# Altium schematic symbol library IC.SchLib: 125 symbols (part 1 of 2)
Pins are listed as number, name and electrical type; pins without a type are passive.

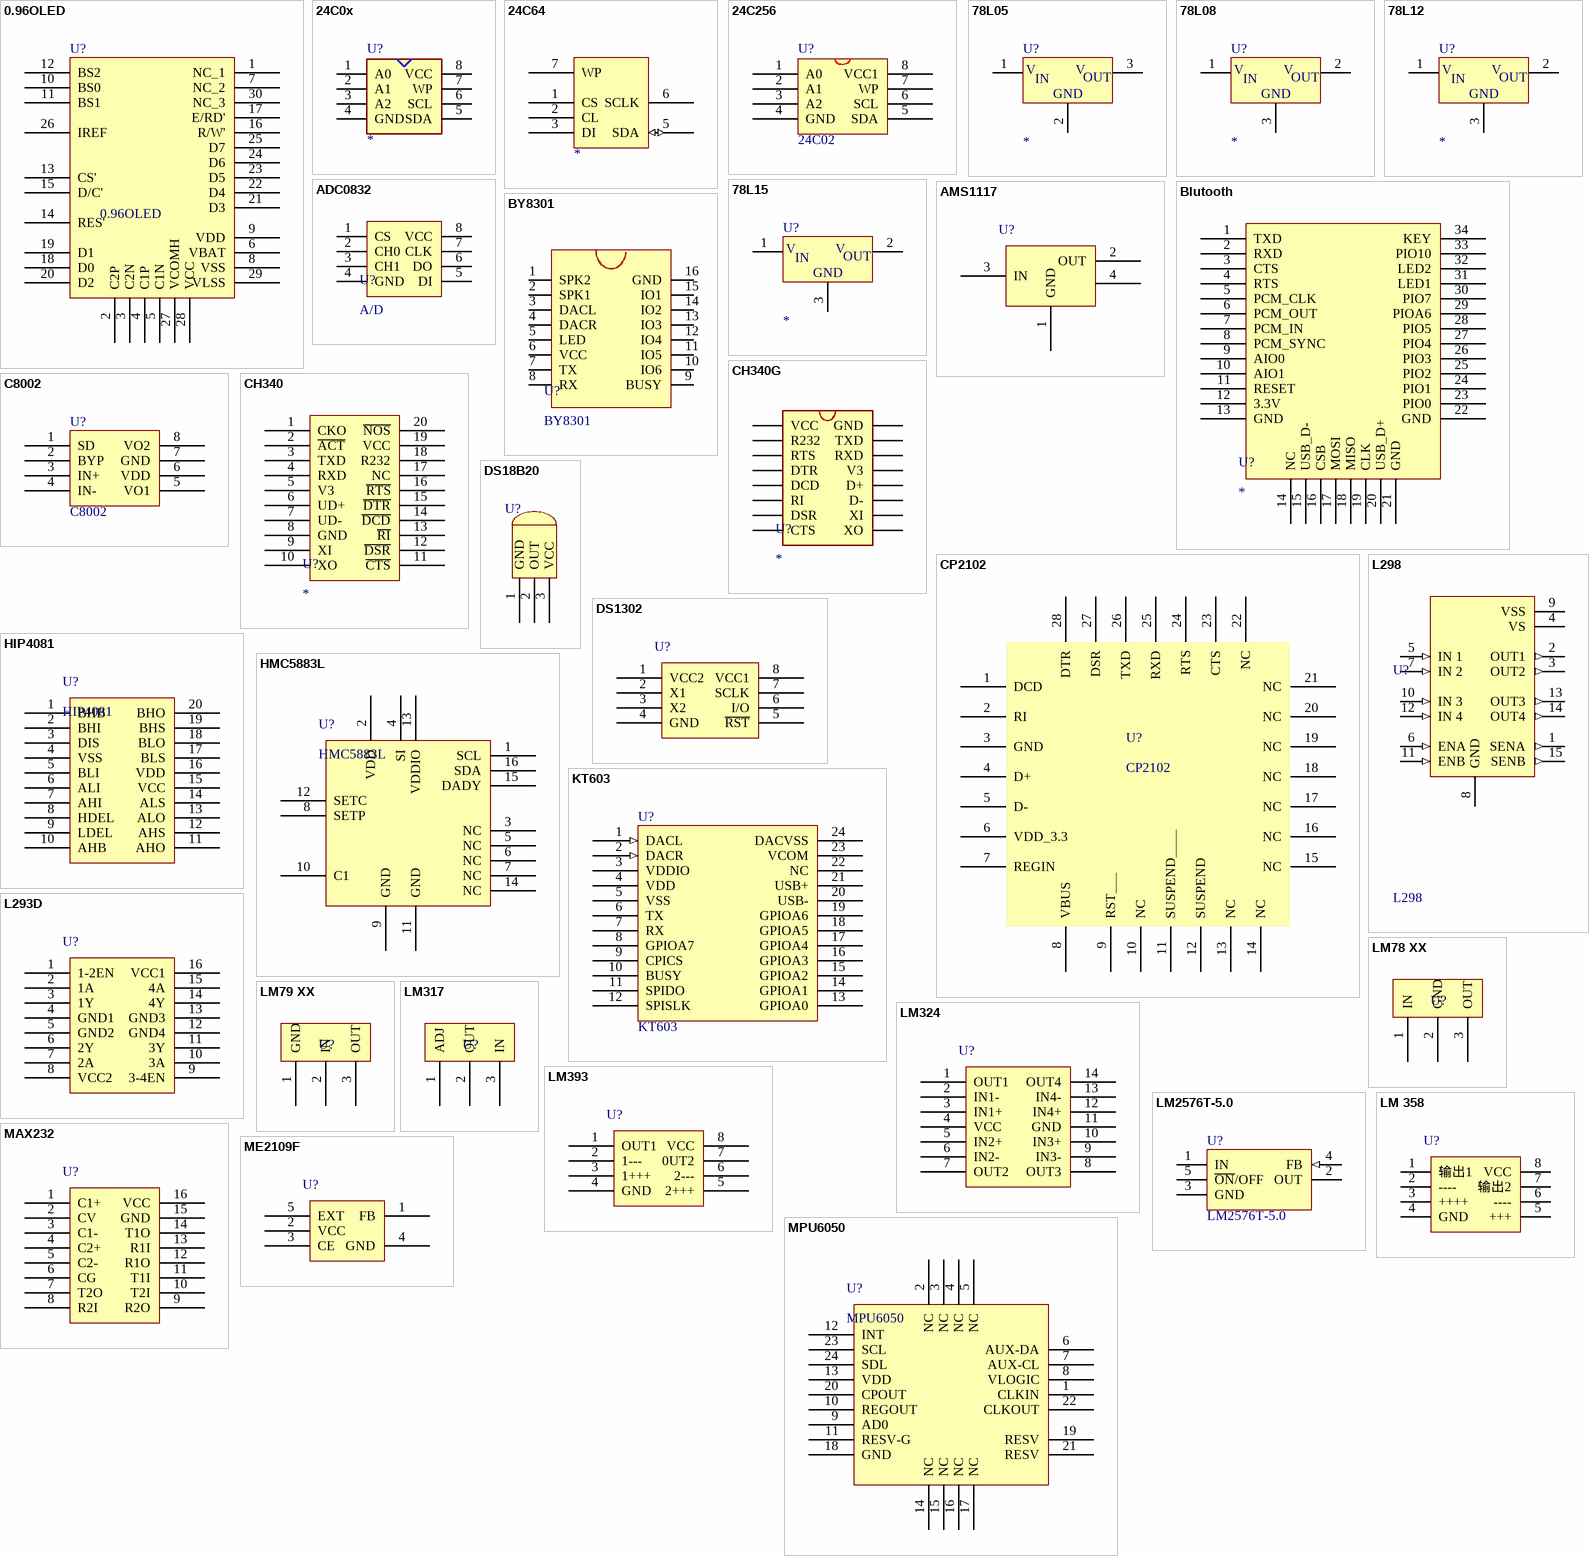
[diagram p0: symbols 0.96OLED to MPU6050]

## 0.96OLED
designator U?
footprint 0.96OLED
pins: 1 NC_1, 2 C2P, 3 C2N, 4 C1P, 5 C1N, 6 VBAT, 7 NC_2, 8 VSS, 9 VDD, 10 BS0, 11 BS1, 12 BS2, 13 CS', 14 RES', 15 D/C', 16 R/W', 17 E/RD', 18 D0, 19 D1, 20 D2, 21 D3, 22 D4, 23 D5, 24 D6, 25 D7, 26 IREF, 27 VCOMH, 28 VCC, 29 VLSS, 30 NC_3

## 24C0x
designator U?
footprint SOP-8
pins: 1 A0, 2 A1, 3 A2, 4 GND, 5 SDA, 6 SCL, 7 WP, 8 VCC

## 24C64
designator ?
pins: 1 CS, 2 CL, 3 DI, 4 GND (power) hidden to GND, 5 SDA (io), 6 SCLK, 7 WP, 8 VCC (power) hidden to VCC

## 24C256
designator U?, comment 24C02
footprint SOP-8 (SOP)
pins: 1 A0, 2 A1, 3 A2, 4 GND, 5 SDA, 6 SCL, 7 WP, 8 VCC1

## 78L05
designator U?
3-Terminal Positive Voltage Regulator
simulation model 78L05 (SUBCKT)
footprint TO-220
pins: 1 VIN, 2 GND, 3 VOUT
text: V; IN; OUT

## 78L08
designator U?
3-Terminal Positive Voltage Regulator
simulation model 78L08 (SUBCKT)
pins: 1 VIN, 2 VOUT, 3 GND
text: V; IN; OUT

## 78L12
designator U?
3-Terminal Positive Voltage Regulator
simulation model 78L12 (SUBCKT)
pins: 1 VIN, 2 VOUT, 3 GND
text: V; IN; OUT

## 78L15
designator U?
3-Terminal Positive Voltage Regulator
simulation model 78L15 (SUBCKT)
pins: 1 VIN, 2 VOUT, 3 GND
text: V; IN; OUT

## ADC0832
designator U?, comment A/D
footprint DIP8
pins: 1 CS, 2 CH0, 3 CH1, 4 GND, 5 DI, 6 DO, 7 CLK, 8 VCC

## AMS1117
designator U?
footprint SOT-223-3
pins: 1 GND, 2 OUT, 3 IN, 4

## Blutooth
designator U?
蓝牙模块
footprint Bluetooth-SMD (蓝牙模块)
pins: 1 TXD, 2 RXD, 3 CTS, 4 RTS, 5 PCM_CLK, 6 PCM_OUT, 7 PCM_IN, 8 PCM_SYNC, 9 AIO0, 10 AIO1, 11 RESET, 12 3.3V, 13 GND, 14 NC, 15 USB_D-, 16 CSB, 17 MOSI, 18 MISO, 19 CLK, 20 USB_D+, 21 GND, 22 GND, 23 PIO0, 24 PIO1, 25 PIO2, 26 PIO3, 27 PIO4, 28 PIO5, 29 PIOA6, 30 PIO7, 31 LED1, 32 LED2, 33 PIO10, 34 KEY

## BY8301
designator U?
pins: 1 SPK2, 2 SPK1, 3 DACL, 4 DACR, 5 LED, 6 VCC, 7 TX, 8 RX, 9 BUSY, 10 IO6, 11 IO5, 12 IO4, 13 IO3, 14 IO2, 15 IO1, 16 GND

## C8002
designator U?
功放
footprint SOIC8
pins: 1 SD (power), 2 BYP (power), 3 IN+ (power), 4 IN- (power), 5 VO1 (power), 6 VDD (power), 7 GND (power), 8 VO2 (power)

## CH340
designator U?
footprint SSOP-20
pins: 1 CKO, 2 ~{ACT}, 3 TXD, 4 RXD, 5 V3, 6 UD+, 7 UD-, 8 GND, 9 XI, 10 XO, 11 ~{CTS}, 12 ~{DSR}, 13 ~{RI}, 14 ~{DCD}, 15 ~{DTR}, 16 ~{RTS}, 17 NC, 18 R232, 19 VCC, 20 ~{NOS}

## CH340G
designator U?
pins: 1 GND, 2 TXD, 3 RXD, 4 V3, 5 D+, 6 D-, 7 XI, 8 XO, 9 CTS, 10 DSR, 11 RI, 12 DCD, 13 DTR, 14 RTS, 15 R232, 16 VCC

## CP2102
designator U?
footprint CP2102
pins: 1 DCD (oc), 2 RI (oc), 3 GND (oc), 4 D+ (oc), 5 D- (oc), 6 VDD_3.3 (oc), 7 REGIN (oc), 8 VBUS (oc), 9 RST___ (oc), 10 NC (oc), 11 SUSPEND____ (oc), 12 SUSPEND (oc), 13 NC (oc), 14 NC (oc), 15 NC (oc), 16 NC (oc), 17 NC (oc), 18 NC (oc), 19 NC (oc), 20 NC (oc), 21 NC (oc), 22 NC (oc), 23 CTS (oc), 24 RTS (oc), 25 RXD (oc), 26 TXD (oc), 27 DSR (oc), 28 DTR (oc)

## DS18B20
designator U?  (value not drawn)
footprint TO-92_Bent
footprint TO-92_Str
pins: 1 GND, 2 OUT, 3 VCC

## DS1302
designator U?  (value not drawn)
footprint SOP-8
pins: 1 VCC2, 2 X1, 3 X2, 4 GND, 5 ~{RST}, 6 I/O, 7 SCLK, 8 VCC1

## HIP4081
designator U?
footprint SOP-20
pins: 1 BHB, 2 BHI, 3 DIS, 4 VSS, 5 BLI, 6 ALI, 7 AHI, 8 HDEL, 9 LDEL, 10 AHB, 11 AHO, 12 AHS, 13 ALO, 14 ALS, 15 VCC, 16 VDD, 17 BLS, 18 BLO, 19 BHS, 20 BHO

## HMC5883L
designator U?
footprint QFN-16
pins: 1 SCL, 2 VDD, 3 NC, 4 SI, 5 NC, 6 NC, 7 NC, 8 SETP, 9 GND, 10 C1, 11 GND, 12 SETC, 13 VDDIO, 14 NC, 15 DADY, 16 SDA

## KT603
designator U?
语音芯片
footprint SSOP24
pins: 1 DACL (in), 2 DACR (in), 3 VDDIO (power), 4 VDD (power), 5 VSS (power), 6 TX (power), 7 RX (power), 8 GPIOA7 (power), 9 CPICS (power), 10 BUSY (power), 11 SPIDO (power), 12 SPISLK (power), 13 GPIOA0 (power), 14 GPIOA1 (power), 15 GPIOA2 (power), 16 GPIOA3 (power), 17 GPIOA4 (power), 18 GPIOA5 (power), 19 GPIOA6 (power), 20 USB- (power), 21 USB+ (power), 22 NC (power), 23 VCOM (power), 24 DACVSS (power)

## L293D
designator U?  (value not drawn)
footprint DIP-16_300
pins: 1 1-2EN, 2 1A, 3 1Y, 4 GND1, 5 GND2, 6 2Y, 7 2A, 8 VCC2, 9 3-4EN, 10 3A, 11 3Y, 12 GND4, 13 GND3, 14 4Y, 15 4A, 16 VCC1

## L298
designator U?
MOTO DEVICE
footprint L298N
pins: 1 SENA (out), 2 OUT1 (out), 3 OUT2 (out), 4 VS (power), 5 IN 1 (in), 6 ENA (in), 7 IN 2 (in), 8 GND (power), 9 VSS (power), 10 IN 3 (in), 11 ENB (in), 12 IN 4 (in), 13 OUT3 (out), 14 OUT4 (out), 15 SENB (out)

## LM78 XX
designator U?, comment U  (value not drawn)
footprint TO200-3
footprint TO-263-3
pins: 1 IN, 2 GND, 3 OUT

## LM79 XX
designator U?, comment U  (value not drawn)
footprint TO200-3
footprint TO-263-3
pins: 1 GND, 2 IN, 3 OUT

## LM317
designator U?  (value not drawn)
footprint TO200-3
pins: 1 ADJ, 2 OUT, 3 IN

## LM324
designator U?  (value not drawn)
footprint DIP-14_300
pins: 1 OUT1, 2 IN1-, 3 IN1+, 4 VCC, 5 IN2+, 6 IN2-, 7 OUT2, 8 OUT3, 9 IN3-, 10 IN3+, 11 GND, 12 IN4+, 13 IN4-, 14 OUT4

## LM393
designator U?  (value not drawn)
footprint DIP-8_300
pins: 1 OUT1, 2 1---, 3 1+++, 4 GND, 5 2+++, 6 2---, 7 0UT2, 8 VCC

## LM2576T-5.0
designator U?
DC-DC降压芯片; Note: Tab is connected to GND; Published: 15-Apr-2002; DatasheetVersion: Dec-1997; PackageReference: TS5B; Publisher: Altium Limited; PackageDescription: D2-PAK; 5 Leads; Body 14.4 (inc. leads) x 10.4 mm (LxW max); ComponentLink1Description: Manufacturer Link; ComponentLink1URL: http://www.national.com/; ComponentLink2Description: Datasheet; ComponentLink2URL: http://www.national.com/ds.cgi/LM/LM2596.pdf; ComponentLink3Description: URL Link1; ComponentLink3URL: http://www.national.com/pf/LM/LM2596.html
footprint TO220-5R
footprint TO220-5 (TO, Thru-Hole, Vertical, Heatsink Mounted; 5 In-Line Leads; Pitch 1.70 mm)
footprint TO263-5 (贴片LM2596)
pins: 1 IN (power), 2 OUT (power), 3 GND (power), 4 FB (in), 5 ~{ON}/OFF (power)

## LM 358
designator U?  (value not drawn)
footprint DIP-8_300
pins: 1 输出1, 2 ----, 3 ++++, 4 GND, 5 +++, 6 ----, 7 输出2, 8 VCC

## MAX232
designator U?  (value not drawn)
footprint DIP-16_300
pins: 1 C1+, 2 CV, 3 C1-, 4 C2+, 5 C2-, 6 CG, 7 T2O, 8 R2I, 9 R2O, 10 T2I, 11 T1I, 12 R1O, 13 R1I, 14 T1O, 15 GND, 16 VCC

## ME2109F
designator U?  (value not drawn)
footprint SOT-23-5
pins: 1 FB, 2 VCC, 3 CE, 4 GND, 5 EXT

## MPU6050
designator U?
footprint QFN-24
pins: 1 CLKIN, 2 NC, 3 NC, 4 NC, 5 NC, 6 AUX-DA, 7 AUX-CL, 8 VLOGIC, 9 AD0, 10 REGOUT, 11 RESV-G, 12 INT, 13 VDD, 14 NC, 15 NC, 16 NC, 17 NC, 18 GND, 19 RESV, 20 CPOUT, 21 RESV, 22 CLKOUT, 23 SCL, 24 SDL

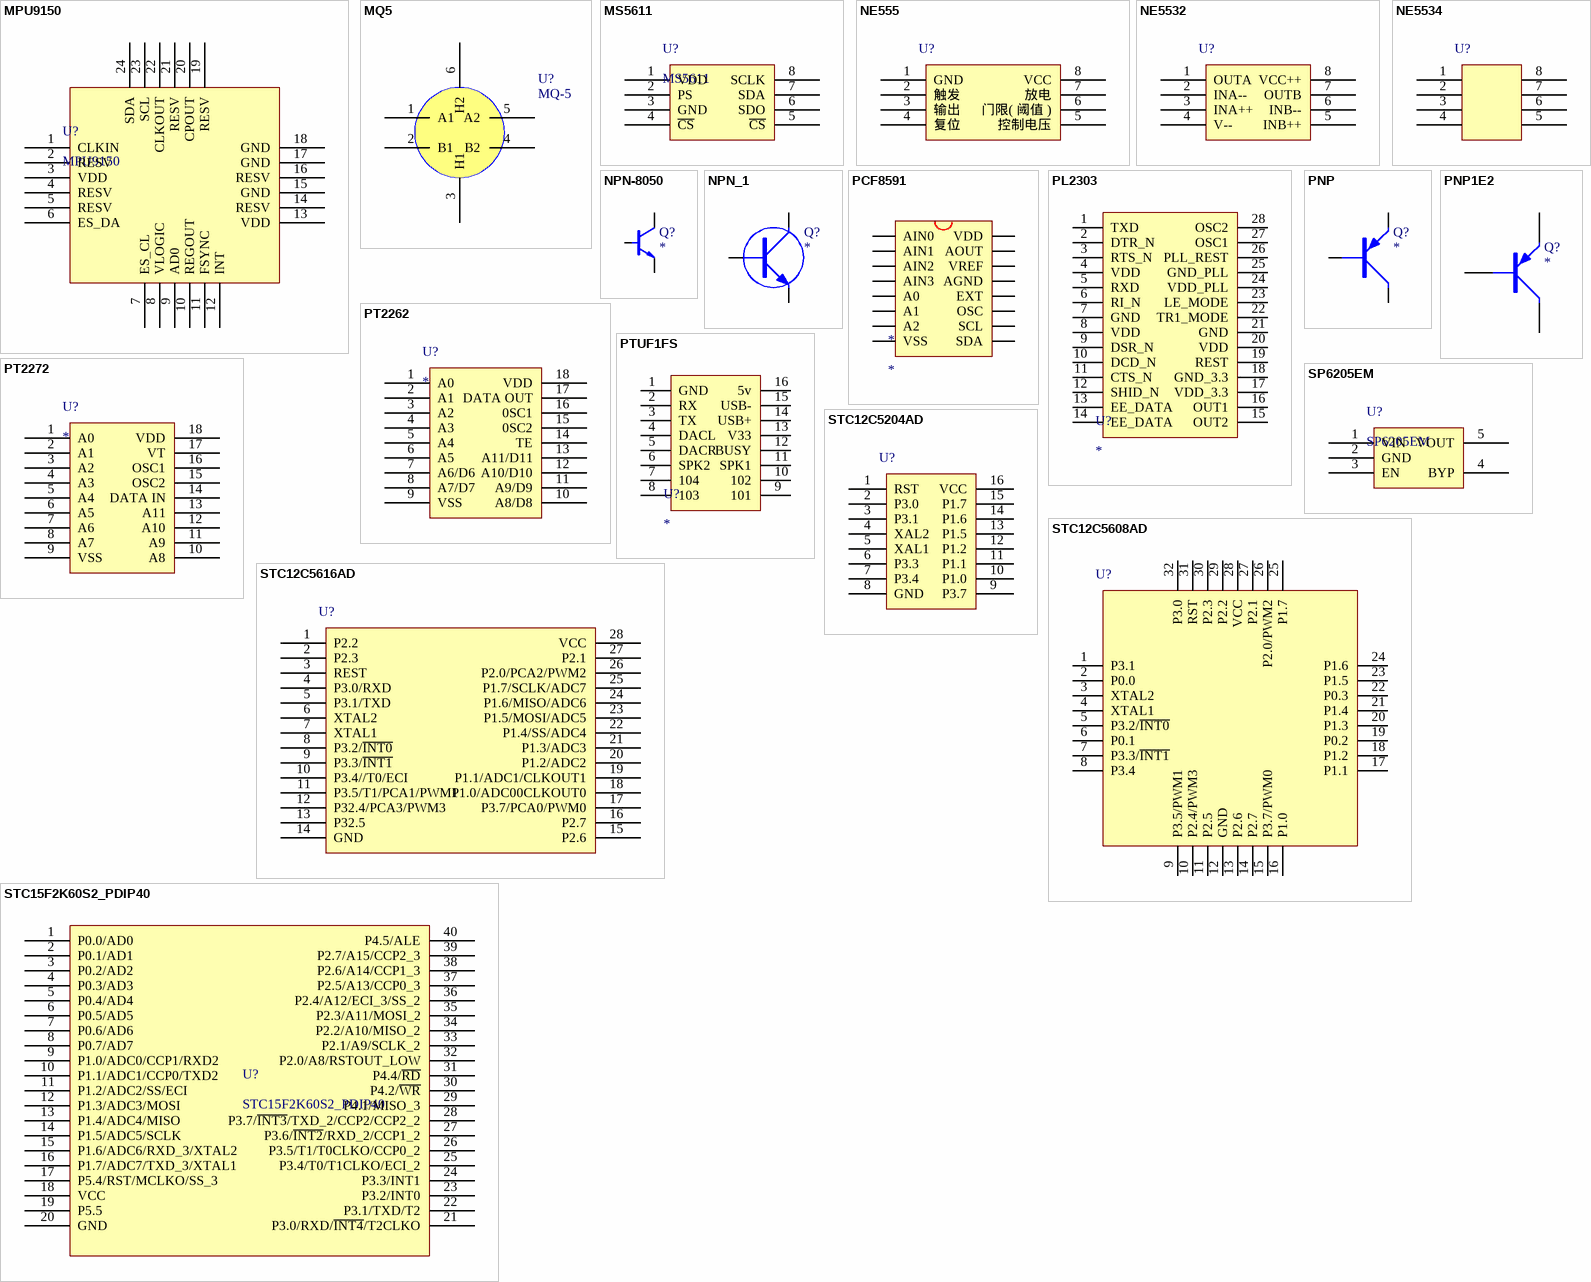
[diagram p1: symbols MPU9150 to STC15F2K60S2_PDIP40]

## MPU9150
designator U?
footprint QFN-24
pins: 1 CLKIN, 2 RESV, 3 VDD, 4 RESV, 5 RESV, 6 ES_DA, 7 ES_CL, 8 VLOGIC, 9 AD0, 10 REGOUT, 11 FSYNC, 12 INT, 13 VDD, 14 RESV, 15 GND, 16 RESV, 17 GND, 18 GND, 19 RESV, 20 CPOUT, 21 RESV, 22 CLKOUT, 23 SCL, 24 SDA

## MQ5
designator U?, comment MQ-5
煤气传感器
footprint MQ5
pins: 1 A1, 2 B1, 3 H1, 4 B2, 5 A2, 6 H2

## MS5611
designator U?
footprint MS5611-1
footprint MS5611-2
pins: 1 VDD, 2 PS, 3 GND, 4 ~{CS}, 5 ~{CS}, 6 SDO, 7 SDA, 8 SCLK

## NE555
designator U?  (value not drawn)
footprint DIP-8_300
pins: 1 GND, 2 触发, 3 输出, 4 复位, 5 控制电压, 6 门限( 阈值 ), 7 放电, 8 VCC

## NE5532
designator U?  (value not drawn)
footprint DIP-8_300
pins: 1 OUTA, 2 INA--, 3 INA++, 4 V--, 5 INB++, 6 INB--, 7 OUTB, 8 VCC++

## NE5534
designator U?  (value not drawn)
footprint DIP-8_300
pins: 1, 2, 3, 4, 5, 6, 7, 8

## NPN-8050
designator Q?
footprint TO-92
pins: B b, C c, E e

## NPN_1
designator Q?
NPN Transistor
footprint TO-92 (TO, Flat Index; 3 In-Line, Axial Leads; Body Dia. 4.6mm; Leads 0.41 x 0.39 mm (max))
pins: 1 E, 2 B, 3 C

## PCF8591
designator *
footprint SOP-16
pins: 1 AIN0, 2 AIN1, 3 AIN2, 4 AIN3, 5 A0, 6 A1, 7 A2, 8 VSS, 9 SDA, 10 SCL, 11 OSC, 12 EXT, 13 AGND, 14 VREF, 15 AOUT, 16 VDD

## PL2303
designator U?
footprint SOP-28
pins: 1 TXD, 2 DTR_N, 3 RTS_N, 4 VDD, 5 RXD, 6 RI_N, 7 GND, 8 VDD (power), 9 DSR_N, 10 DCD_N, 11 CTS_N, 12 SHID_N, 13 EE_DATA, 14 EE_DATA, 15 OUT2, 16 OUT1, 17 VDD_3.3, 18 GND_3.3, 19 REST, 20 VDD, 21 GND, 22 TR1_MODE, 23 LE_MODE, 24 VDD_PLL, 25 GND_PLL, 26 PLL_REST (power), 27 OSC1, 28 OSC2

## PNP
designator Q?
footprint TO-92 (TO, Flat Index; 3 In-Line, Axial Leads; Body Dia. 4.6mm; Leads 0.41 x 0.39 mm (max))
pins: 1 E, 2 B, 3 C

## PNP1E2
designator Q?
footprint TO92A
footprint TO92B
pins: 1 E, 2 C, 3 B

## PT2262
designator U?
footprint DIP-18_300
footprint SOP-18
pins: 1 A0, 2 A1, 3 A2, 4 A3, 5 A4, 6 A5, 7 A6/D6, 8 A7/D7, 9 VSS, 10 A8/D8, 11 A9/D9, 12 A10/D10, 13 A11/D11, 14 TE, 15 0SC2, 16 0SC1, 17 DATA OUT, 18 VDD

## PT2272
designator U?
footprint SOP-18
footprint DIP-18_300
pins: 1 A0, 2 A1, 3 A2, 4 A3, 5 A4, 6 A5, 7 A6, 8 A7, 9 VSS, 10 A8, 11 A9, 12 A10, 13 A11, 14 DATA IN, 15 OSC2, 16 OSC1, 17 VT, 18 VDD

## PTUF1FS
designator U?
footprint PTUF1FS
pins: 1 GND, 2 RX, 3 TX, 4 DACL, 5 DACR, 6 SPK2, 7 104, 8 103, 9 101, 10 102, 11 SPK1, 12 BUSY, 13 V33, 14 USB+, 15 USB-, 16 5v

## SP6205EM
designator U?
footprint SOT-23-5
pins: 1 VIN, 2 GND, 3 EN, 4 BYP, 5 VOUT

## STC12C5204AD
designator U?  (value not drawn)
footprint SOP-16
footprint DIP-16_300
pins: 1 RST, 2 P3.0, 3 P3.1, 4 XAL2, 5 XAL1, 6 P3.3, 7 P3.4, 8 GND, 9 P3.7, 10 P1.0, 11 P1.1, 12 P1.2, 13 P1.5, 14 P1.6, 15 P1.7, 16 VCC

## STC12C5608AD
designator U?  (value not drawn)
footprint LQFP-32
pins: 1 P3.1, 2 P0.0, 3 XTAL2, 4 XTAL1, 5 P3.2/~{INT0}, 6 P0.1, 7 P3.3/~{INT1}, 8 P3.4, 9 P3.5/PWM1, 10 P2.4/PWM3, 11 P2.5, 12 GND, 13 P2.6, 14 P2.7, 15 P3.7/PWM0, 16 P1.0, 17 P1.1, 18 P1.2, 19 P0.2, 20 P1.3, 21 P1.4, 22 P0.3, 23 P1.5, 24 P1.6, 25 P1.7, 26 P2.0/PWM2, 27 P2.1, 28 VCC, 29 P2.2, 30 P2.3, 31 RST, 32 P3.0

## STC12C5616AD
designator U?  (value not drawn)
footprint DIP-28_300
pins: 1 P2.2, 2 P2.3, 3 REST, 4 P3.0/RXD, 5 P3.1/TXD, 6 XTAL2, 7 XTAL1, 8 P3.2/~{INT0}, 9 P3.3/~{INT1}, 10 P3.4//T0/ECI, 11 P3.5/T1/PCA1/PWM1, 12 P32.4/PCA3/PWM3, 13 P32.5, 14 GND, 15 P2.6, 16 P2.7, 17 P3.7/PCA0/PWM0, 18 P1.0/ADC00CLKOUT0, 19 P1.1/ADC1/CLKOUT1, 20 P1.2/ADC2, 21 P1.3/ADC3, 22 P1.4/SS/ADC4, 23 P1.5/MOSI/ADC5, 24 P1.6/MISO/ADC6, 25 P1.7/SCLK/ADC7, 26 P2.0/PCA2/PWM2, 27 P2.1, 28 VCC

## STC15F2K60S2_PDIP40
designator U?
footprint DIP40
pins: 1 P0.0/AD0, 2 P0.1/AD1, 3 P0.2/AD2, 4 P0.3/AD3, 5 P0.4/AD4, 6 P0.5/AD5, 7 P0.6/AD6, 8 P0.7/AD7, 9 P1.0/ADC0/CCP1/RXD2, 10 P1.1/ADC1/CCP0/TXD2, 11 P1.2/ADC2/SS/ECI, 12 P1.3/ADC3/MOSI, 13 P1.4/ADC4/MISO, 14 P1.5/ADC5/SCLK, 15 P1.6/ADC6/RXD_3/XTAL2, 16 P1.7/ADC7/TXD_3/XTAL1, 17 P5.4/RST/MCLKO/SS_3, 18 VCC, 19 P5.5, 20 GND, 21 P3.0/RXD/~{INT4}/T2CLKO, 22 P3.1/TXD/T2, 23 P3.2/INT0, 24 P3.3/INT1, 25 P3.4/T0/T1CLKO/ECI_2, 26 P3.5/T1/T0CLKO/CCP0_2, 27 P3.6/~{INT2}/RXD_2/CCP1_2, 28 P3.7/~{INT3}/TXD_2/CCP2/CCP2_2, 29 P4.1/MISO_3, 30 P4.2/~{WR}, 31 P4.4/~{RD}, 32 P2.0/A8/RSTOUT_LOW, 33 P2.1/A9/SCLK_2, 34 P2.2/A10/MISO_2, 35 P2.3/A11/MOSI_2, 36 P2.4/A12/ECI_3/SS_2, 37 P2.5/A13/CCP0_3, 38 P2.6/A14/CCP1_3, 39 P2.7/A15/CCP2_3, 40 P4.5/ALE

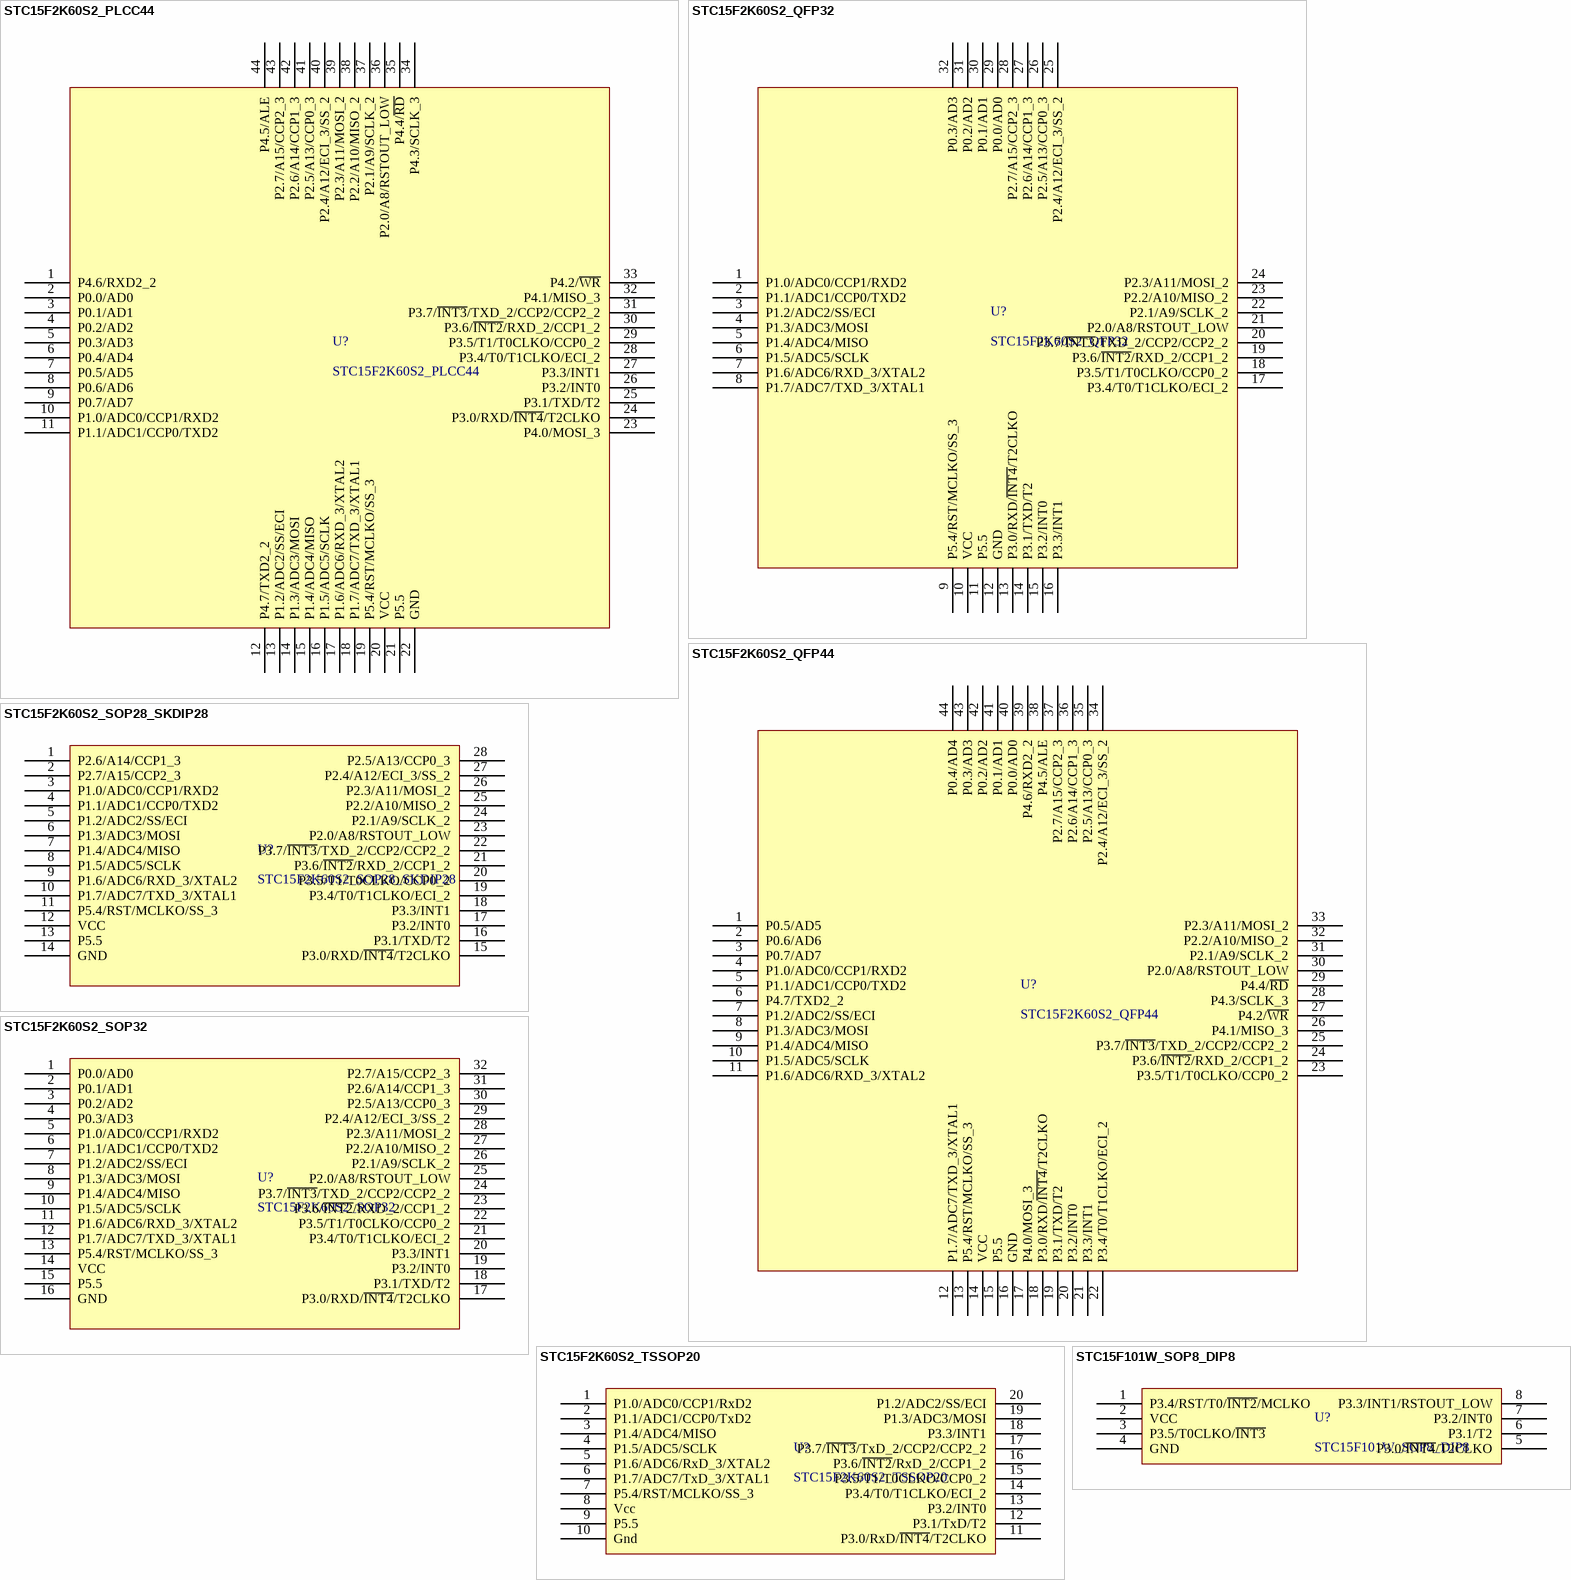
[diagram p2: symbols STC15F2K60S2_PLCC44 to STC15F101W_SOP8_DIP8]

## STC15F2K60S2_PLCC44
designator U?
footprint PLCC44
pins: 1 P4.6/RXD2_2, 2 P0.0/AD0, 3 P0.1/AD1, 4 P0.2/AD2, 5 P0.3/AD3, 6 P0.4/AD4, 7 P0.5/AD5, 8 P0.6/AD6, 9 P0.7/AD7, 10 P1.0/ADC0/CCP1/RXD2, 11 P1.1/ADC1/CCP0/TXD2, 12 P4.7/TXD2_2, 13 P1.2/ADC2/SS/ECI, 14 P1.3/ADC3/MOSI, 15 P1.4/ADC4/MISO, 16 P1.5/ADC5/SCLK, 17 P1.6/ADC6/RXD_3/XTAL2, 18 P1.7/ADC7/TXD_3/XTAL1, 19 P5.4/RST/MCLKO/SS_3, 20 VCC, 21 P5.5, 22 GND, 23 P4.0/MOSI_3, 24 P3.0/RXD/~{INT4}/T2CLKO, 25 P3.1/TXD/T2, 26 P3.2/INT0, 27 P3.3/INT1, 28 P3.4/T0/T1CLKO/ECI_2, 29 P3.5/T1/T0CLKO/CCP0_2, 30 P3.6/~{INT2}/RXD_2/CCP1_2, 31 P3.7/~{INT3}/TXD_2/CCP2/CCP2_2, 32 P4.1/MISO_3, 33 P4.2/~{WR}, 34 P4.3/SCLK_3, 35 P4.4/~{RD}, 36 P2.0/A8/RSTOUT_LOW, 37 P2.1/A9/SCLK_2, 38 P2.2/A10/MISO_2, 39 P2.3/A11/MOSI_2, 40 P2.4/A12/ECI_3/SS_2, 41 P2.5/A13/CCP0_3, 42 P2.6/A14/CCP1_3, 43 P2.7/A15/CCP2_3, 44 P4.5/ALE

## STC15F2K60S2_QFP32
designator U?
footprint LQFP32
pins: 1 P1.0/ADC0/CCP1/RXD2, 2 P1.1/ADC1/CCP0/TXD2, 3 P1.2/ADC2/SS/ECI, 4 P1.3/ADC3/MOSI, 5 P1.4/ADC4/MISO, 6 P1.5/ADC5/SCLK, 7 P1.6/ADC6/RXD_3/XTAL2, 8 P1.7/ADC7/TXD_3/XTAL1, 9 P5.4/RST/MCLKO/SS_3, 10 VCC, 11 P5.5, 12 GND, 13 P3.0/RXD/~{INT4}/T2CLKO, 14 P3.1/TXD/T2, 15 P3.2/INT0, 16 P3.3/INT1, 17 P3.4/T0/T1CLKO/ECI_2, 18 P3.5/T1/T0CLKO/CCP0_2, 19 P3.6/~{INT2}/RXD_2/CCP1_2, 20 P3.7/~{INT3}/TXD_2/CCP2/CCP2_2, 21 P2.0/A8/RSTOUT_LOW, 22 P2.1/A9/SCLK_2, 23 P2.2/A10/MISO_2, 24 P2.3/A11/MOSI_2, 25 P2.4/A12/ECI_3/SS_2, 26 P2.5/A13/CCP0_3, 27 P2.6/A14/CCP1_3, 28 P2.7/A15/CCP2_3, 29 P0.0/AD0, 30 P0.1/AD1, 31 P0.2/AD2, 32 P0.3/AD3

## STC15F2K60S2_QFP44
designator U?
footprint PQFP44
footprint LQFP44
pins: 1 P0.5/AD5, 2 P0.6/AD6, 3 P0.7/AD7, 4 P1.0/ADC0/CCP1/RXD2, 5 P1.1/ADC1/CCP0/TXD2, 6 P4.7/TXD2_2, 7 P1.2/ADC2/SS/ECI, 8 P1.3/ADC3/MOSI, 9 P1.4/ADC4/MISO, 10 P1.5/ADC5/SCLK, 11 P1.6/ADC6/RXD_3/XTAL2, 12 P1.7/ADC7/TXD_3/XTAL1, 13 P5.4/RST/MCLKO/SS_3, 14 VCC, 15 P5.5, 16 GND, 17 P4.0/MOSI_3, 18 P3.0/RXD/~{INT4}/T2CLKO, 19 P3.1/TXD/T2, 20 P3.2/INT0, 21 P3.3/INT1, 22 P3.4/T0/T1CLKO/ECI_2, 23 P3.5/T1/T0CLKO/CCP0_2, 24 P3.6/~{INT2}/RXD_2/CCP1_2, 25 P3.7/~{INT3}/TXD_2/CCP2/CCP2_2, 26 P4.1/MISO_3, 27 P4.2/~{WR}, 28 P4.3/SCLK_3, 29 P4.4/~{RD}, 30 P2.0/A8/RSTOUT_LOW, 31 P2.1/A9/SCLK_2, 32 P2.2/A10/MISO_2, 33 P2.3/A11/MOSI_2, 34 P2.4/A12/ECI_3/SS_2, 35 P2.5/A13/CCP0_3, 36 P2.6/A14/CCP1_3, 37 P2.7/A15/CCP2_3, 38 P4.5/ALE, 39 P4.6/RXD2_2, 40 P0.0/AD0, 41 P0.1/AD1, 42 P0.2/AD2, 43 P0.3/AD3, 44 P0.4/AD4

## STC15F2K60S2_SOP28_SKDIP28
designator U?
footprint SKDIP28
footprint SOP28
footprint TSSOP28
pins: 1 P2.6/A14/CCP1_3, 2 P2.7/A15/CCP2_3, 3 P1.0/ADC0/CCP1/RXD2, 4 P1.1/ADC1/CCP0/TXD2, 5 P1.2/ADC2/SS/ECI, 6 P1.3/ADC3/MOSI, 7 P1.4/ADC4/MISO, 8 P1.5/ADC5/SCLK, 9 P1.6/ADC6/RXD_3/XTAL2, 10 P1.7/ADC7/TXD_3/XTAL1, 11 P5.4/RST/MCLKO/SS_3, 12 VCC, 13 P5.5, 14 GND, 15 P3.0/RXD/~{INT4}/T2CLKO, 16 P3.1/TXD/T2, 17 P3.2/INT0, 18 P3.3/INT1, 19 P3.4/T0/T1CLKO/ECI_2, 20 P3.5/T1/T0CLKO/CCP0_2, 21 P3.6/~{INT2}/RXD_2/CCP1_2, 22 P3.7/~{INT3}/TXD_2/CCP2/CCP2_2, 23 P2.0/A8/RSTOUT_LOW, 24 P2.1/A9/SCLK_2, 25 P2.2/A10/MISO_2, 26 P2.3/A11/MOSI_2, 27 P2.4/A12/ECI_3/SS_2, 28 P2.5/A13/CCP0_3

## STC15F2K60S2_SOP32
designator U?
footprint SOP32
pins: 1 P0.0/AD0, 2 P0.1/AD1, 3 P0.2/AD2, 4 P0.3/AD3, 5 P1.0/ADC0/CCP1/RXD2, 6 P1.1/ADC1/CCP0/TXD2, 7 P1.2/ADC2/SS/ECI, 8 P1.3/ADC3/MOSI, 9 P1.4/ADC4/MISO, 10 P1.5/ADC5/SCLK, 11 P1.6/ADC6/RXD_3/XTAL2, 12 P1.7/ADC7/TXD_3/XTAL1, 13 P5.4/RST/MCLKO/SS_3, 14 VCC, 15 P5.5, 16 GND, 17 P3.0/RXD/~{INT4}/T2CLKO, 18 P3.1/TXD/T2, 19 P3.2/INT0, 20 P3.3/INT1, 21 P3.4/T0/T1CLKO/ECI_2, 22 P3.5/T1/T0CLKO/CCP0_2, 23 P3.6/~{INT2}/RXD_2/CCP1_2, 24 P3.7/~{INT3}/TXD_2/CCP2/CCP2_2, 25 P2.0/A8/RSTOUT_LOW, 26 P2.1/A9/SCLK_2, 27 P2.2/A10/MISO_2, 28 P2.3/A11/MOSI_2, 29 P2.4/A12/ECI_3/SS_2, 30 P2.5/A13/CCP0_3, 31 P2.6/A14/CCP1_3, 32 P2.7/A15/CCP2_3

## STC15F2K60S2_TSSOP20
designator U?
footprint TSSOP20
pins: 1 P1.0/ADC0/CCP1/RxD2, 2 P1.1/ADC1/CCP0/TxD2, 3 P1.4/ADC4/MISO, 4 P1.5/ADC5/SCLK, 5 P1.6/ADC6/RxD_3/XTAL2, 6 P1.7/ADC7/TxD_3/XTAL1, 7 P5.4/RST/MCLKO/SS_3, 8 Vcc, 9 P5.5, 10 Gnd, 11 P3.0/RxD/~{INT4}/T2CLKO, 12 P3.1/TxD/T2, 13 P3.2/INT0, 14 P3.4/T0/T1CLKO/ECI_2, 15 P3.5/T1/T0CLKO/CCP0_2, 16 P3.6/~{INT2}/RxD_2/CCP1_2, 17 P3.7/~{INT3}/TxD_2/CCP2/CCP2_2, 18 P3.3/INT1, 19 P1.3/ADC3/MOSI, 20 P1.2/ADC2/SS/ECI

## STC15F101W_SOP8_DIP8
designator U?
footprint DFN8
footprint DIP8
footprint SOP8
pins: 1 P3.4/RST/T0/~{INT2}/MCLKO, 2 VCC, 3 P3.5/T0CLKO/~{INT3}, 4 GND, 5 P3.0/~{INT4}/T2CLKO, 6 P3.1/T2, 7 P3.2/INT0, 8 P3.3/INT1/RSTOUT_LOW

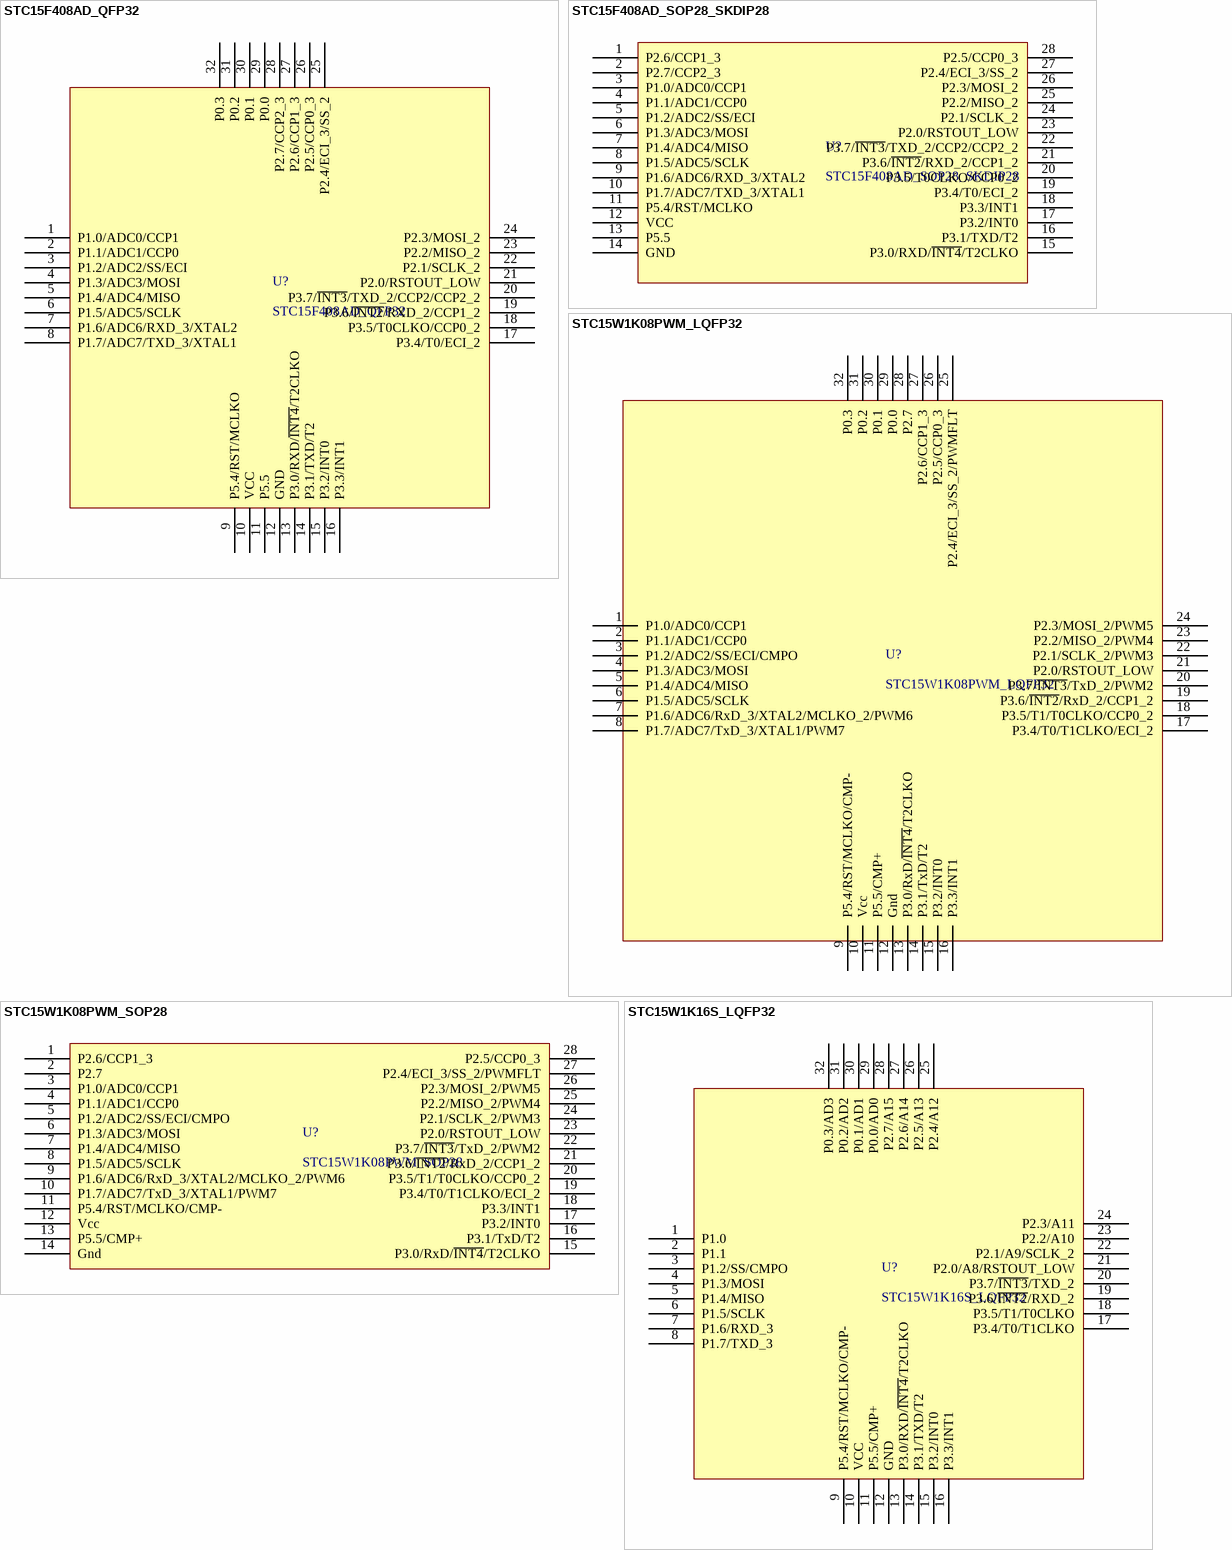
[diagram p3: symbols STC15F408AD_QFP32 to STC15W1K16S_LQFP32]

## STC15F408AD_QFP32
designator U?
footprint LQFP32
pins: 1 P1.0/ADC0/CCP1, 2 P1.1/ADC1/CCP0, 3 P1.2/ADC2/SS/ECI, 4 P1.3/ADC3/MOSI, 5 P1.4/ADC4/MISO, 6 P1.5/ADC5/SCLK, 7 P1.6/ADC6/RXD_3/XTAL2, 8 P1.7/ADC7/TXD_3/XTAL1, 9 P5.4/RST/MCLKO, 10 VCC, 11 P5.5, 12 GND, 13 P3.0/RXD/~{INT4}/T2CLKO, 14 P3.1/TXD/T2, 15 P3.2/INT0, 16 P3.3/INT1, 17 P3.4/T0/ECI_2, 18 P3.5/T0CLKO/CCP0_2, 19 P3.6/~{INT2}/RXD_2/CCP1_2, 20 P3.7/~{INT3}/TXD_2/CCP2/CCP2_2, 21 P2.0/RSTOUT_LOW, 22 P2.1/SCLK_2, 23 P2.2/MISO_2, 24 P2.3/MOSI_2, 25 P2.4/ECI_3/SS_2, 26 P2.5/CCP0_3, 27 P2.6/CCP1_3, 28 P2.7/CCP2_3, 29 P0.0, 30 P0.1, 31 P0.2, 32 P0.3

## STC15F408AD_SOP28_SKDIP28
designator U?
footprint SKDIP28
footprint SOP28
footprint TSSOP28
pins: 1 P2.6/CCP1_3, 2 P2.7/CCP2_3, 3 P1.0/ADC0/CCP1, 4 P1.1/ADC1/CCP0, 5 P1.2/ADC2/SS/ECI, 6 P1.3/ADC3/MOSI, 7 P1.4/ADC4/MISO, 8 P1.5/ADC5/SCLK, 9 P1.6/ADC6/RXD_3/XTAL2, 10 P1.7/ADC7/TXD_3/XTAL1, 11 P5.4/RST/MCLKO, 12 VCC, 13 P5.5, 14 GND, 15 P3.0/RXD/~{INT4}/T2CLKO, 16 P3.1/TXD/T2, 17 P3.2/INT0, 18 P3.3/INT1, 19 P3.4/T0/ECI_2, 20 P3.5/T0CLKO/CCP0_2, 21 P3.6/~{INT2}/RXD_2/CCP1_2, 22 P3.7/~{INT3}/TXD_2/CCP2/CCP2_2, 23 P2.0/RSTOUT_LOW, 24 P2.1/SCLK_2, 25 P2.2/MISO_2, 26 P2.3/MOSI_2, 27 P2.4/ECI_3/SS_2, 28 P2.5/CCP0_3

## STC15W1K08PWM_LQFP32
designator U?
footprint LQFP32
pins: 1 P1.0/ADC0/CCP1, 2 P1.1/ADC1/CCP0, 3 P1.2/ADC2/SS/ECI/CMPO, 4 P1.3/ADC3/MOSI, 5 P1.4/ADC4/MISO, 6 P1.5/ADC5/SCLK, 7 P1.6/ADC6/RxD_3/XTAL2/MCLKO_2/PWM6, 8 P1.7/ADC7/TxD_3/XTAL1/PWM7, 9 P5.4/RST/MCLKO/CMP-, 10 Vcc, 11 P5.5/CMP+, 12 Gnd, 13 P3.0/RxD/~{INT4}/T2CLKO, 14 P3.1/TxD/T2, 15 P3.2/INT0, 16 P3.3/INT1, 17 P3.4/T0/T1CLKO/ECI_2, 18 P3.5/T1/T0CLKO/CCP0_2, 19 P3.6/~{INT2}/RxD_2/CCP1_2, 20 P3.7/~{INT3}/TxD_2/PWM2, 21 P2.0/RSTOUT_LOW, 22 P2.1/SCLK_2/PWM3, 23 P2.2/MISO_2/PWM4, 24 P2.3/MOSI_2/PWM5, 25 P2.4/ECI_3/SS_2/PWMFLT, 26 P2.5/CCP0_3, 27 P2.6/CCP1_3, 28 P2.7, 29 P0.0, 30 P0.1, 31 P0.2, 32 P0.3

## STC15W1K08PWM_SOP28
designator U?
footprint SOP28
pins: 1 P2.6/CCP1_3, 2 P2.7, 3 P1.0/ADC0/CCP1, 4 P1.1/ADC1/CCP0, 5 P1.2/ADC2/SS/ECI/CMPO, 6 P1.3/ADC3/MOSI, 7 P1.4/ADC4/MISO, 8 P1.5/ADC5/SCLK, 9 P1.6/ADC6/RxD_3/XTAL2/MCLKO_2/PWM6, 10 P1.7/ADC7/TxD_3/XTAL1/PWM7, 11 P5.4/RST/MCLKO/CMP-, 12 Vcc, 13 P5.5/CMP+, 14 Gnd, 15 P3.0/RxD/~{INT4}/T2CLKO, 16 P3.1/TxD/T2, 17 P3.2/INT0, 18 P3.3/INT1, 19 P3.4/T0/T1CLKO/ECI_2, 20 P3.5/T1/T0CLKO/CCP0_2, 21 P3.6/~{INT2}/RxD_2/CCP1_2, 22 P3.7/~{INT3}/TxD_2/PWM2, 23 P2.0/RSTOUT_LOW, 24 P2.1/SCLK_2/PWM3, 25 P2.2/MISO_2/PWM4, 26 P2.3/MOSI_2/PWM5, 27 P2.4/ECI_3/SS_2/PWMFLT, 28 P2.5/CCP0_3

## STC15W1K16S_LQFP32
designator U?
footprint LQFP32
pins: 1 P1.0, 2 P1.1, 3 P1.2/SS/CMPO, 4 P1.3/MOSI, 5 P1.4/MISO, 6 P1.5/SCLK, 7 P1.6/RXD_3, 8 P1.7/TXD_3, 9 P5.4/RST/MCLKO/CMP-, 10 VCC, 11 P5.5/CMP+, 12 GND, 13 P3.0/RXD/~{INT4}/T2CLKO, 14 P3.1/TXD/T2, 15 P3.2/INT0, 16 P3.3/INT1, 17 P3.4/T0/T1CLKO, 18 P3.5/T1/T0CLKO, 19 P3.6/~{INT2}/RXD_2, 20 P3.7/~{INT3}/TXD_2, 21 P2.0/A8/RSTOUT_LOW, 22 P2.1/A9/SCLK_2, 23 P2.2/A10, 24 P2.3/A11, 25 P2.4/A12, 26 P2.5/A13, 27 P2.6/A14, 28 P2.7/A15, 29 P0.0/AD0, 30 P0.1/AD1, 31 P0.2/AD2, 32 P0.3/AD3

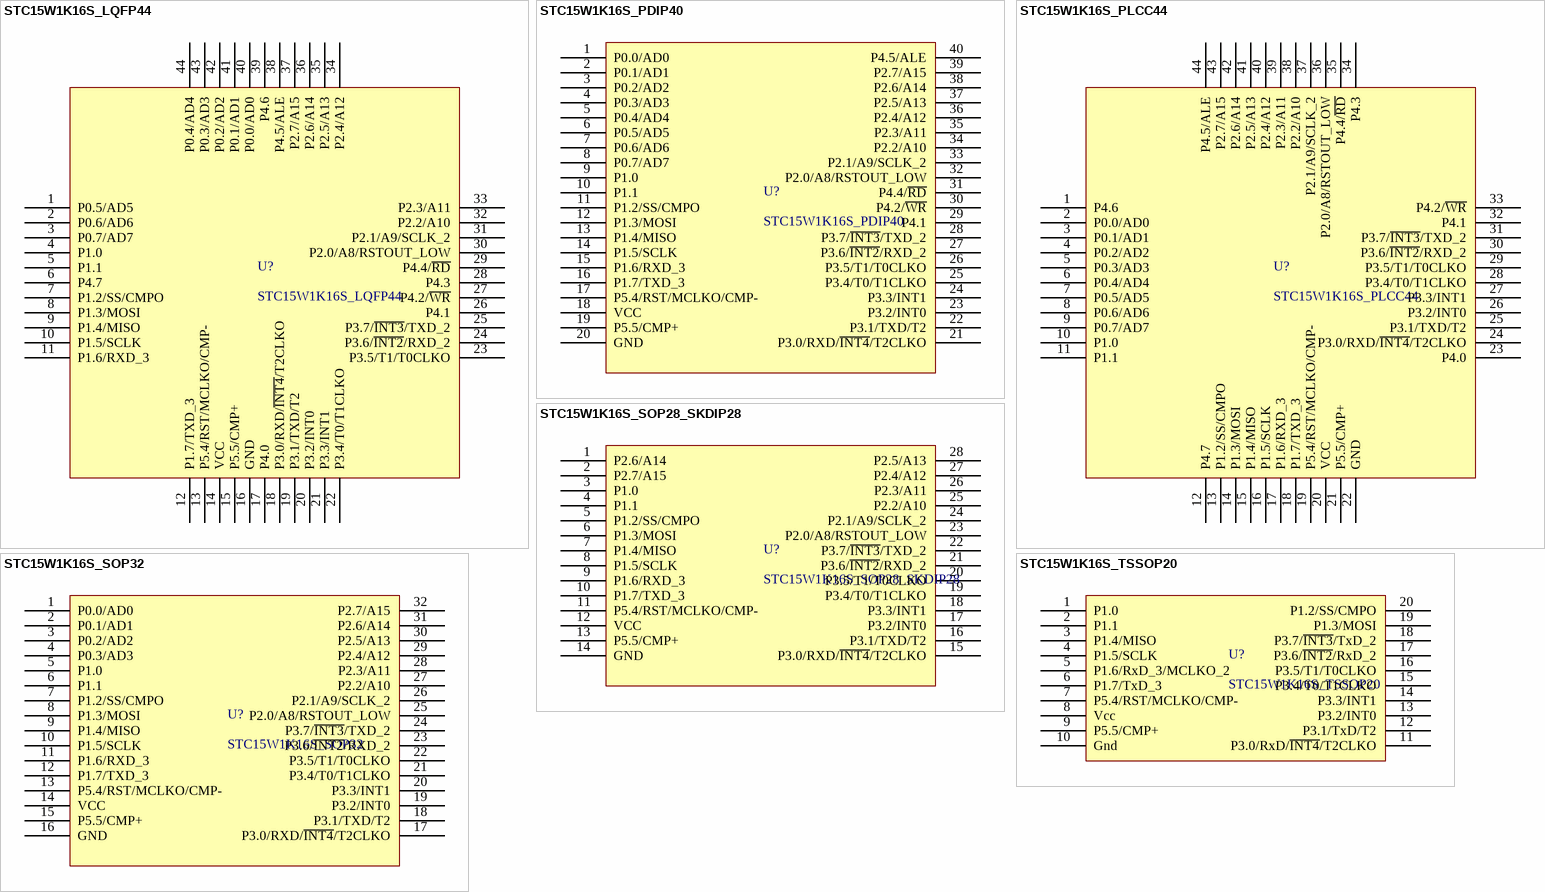
[diagram p4: symbols STC15W1K16S_LQFP44 to STC15W1K16S_TSSOP20]

## STC15W1K16S_LQFP44
designator U?
footprint LQFP44
footprint PQFP44
pins: 1 P0.5/AD5, 2 P0.6/AD6, 3 P0.7/AD7, 4 P1.0, 5 P1.1, 6 P4.7, 7 P1.2/SS/CMPO, 8 P1.3/MOSI, 9 P1.4/MISO, 10 P1.5/SCLK, 11 P1.6/RXD_3, 12 P1.7/TXD_3, 13 P5.4/RST/MCLKO/CMP-, 14 VCC, 15 P5.5/CMP+, 16 GND, 17 P4.0, 18 P3.0/RXD/~{INT4}/T2CLKO, 19 P3.1/TXD/T2, 20 P3.2/INT0, 21 P3.3/INT1, 22 P3.4/T0/T1CLKO, 23 P3.5/T1/T0CLKO, 24 P3.6/~{INT2}/RXD_2, 25 P3.7/~{INT3}/TXD_2, 26 P4.1, 27 P4.2/~{WR}, 28 P4.3, 29 P4.4/~{RD}, 30 P2.0/A8/RSTOUT_LOW, 31 P2.1/A9/SCLK_2, 32 P2.2/A10, 33 P2.3/A11, 34 P2.4/A12, 35 P2.5/A13, 36 P2.6/A14, 37 P2.7/A15, 38 P4.5/ALE, 39 P4.6, 40 P0.0/AD0, 41 P0.1/AD1, 42 P0.2/AD2, 43 P0.3/AD3, 44 P0.4/AD4

## STC15W1K16S_PDIP40
designator U?
footprint DIP40
pins: 1 P0.0/AD0, 2 P0.1/AD1, 3 P0.2/AD2, 4 P0.3/AD3, 5 P0.4/AD4, 6 P0.5/AD5, 7 P0.6/AD6, 8 P0.7/AD7, 9 P1.0, 10 P1.1, 11 P1.2/SS/CMPO, 12 P1.3/MOSI, 13 P1.4/MISO, 14 P1.5/SCLK, 15 P1.6/RXD_3, 16 P1.7/TXD_3, 17 P5.4/RST/MCLKO/CMP-, 18 VCC, 19 P5.5/CMP+, 20 GND, 21 P3.0/RXD/~{INT4}/T2CLKO, 22 P3.1/TXD/T2, 23 P3.2/INT0, 24 P3.3/INT1, 25 P3.4/T0/T1CLKO, 26 P3.5/T1/T0CLKO, 27 P3.6/~{INT2}/RXD_2, 28 P3.7/~{INT3}/TXD_2, 29 P4.1, 30 P4.2/~{WR}, 31 P4.4/~{RD}, 32 P2.0/A8/RSTOUT_LOW, 33 P2.1/A9/SCLK_2, 34 P2.2/A10, 35 P2.3/A11, 36 P2.4/A12, 37 P2.5/A13, 38 P2.6/A14, 39 P2.7/A15, 40 P4.5/ALE

## STC15W1K16S_PLCC44
designator U?
footprint PLCC44
pins: 1 P4.6, 2 P0.0/AD0, 3 P0.1/AD1, 4 P0.2/AD2, 5 P0.3/AD3, 6 P0.4/AD4, 7 P0.5/AD5, 8 P0.6/AD6, 9 P0.7/AD7, 10 P1.0, 11 P1.1, 12 P4.7, 13 P1.2/SS/CMPO, 14 P1.3/MOSI, 15 P1.4/MISO, 16 P1.5/SCLK, 17 P1.6/RXD_3, 18 P1.7/TXD_3, 19 P5.4/RST/MCLKO/CMP-, 20 VCC, 21 P5.5/CMP+, 22 GND, 23 P4.0, 24 P3.0/RXD/~{INT4}/T2CLKO, 25 P3.1/TXD/T2, 26 P3.2/INT0, 27 P3.3/INT1, 28 P3.4/T0/T1CLKO, 29 P3.5/T1/T0CLKO, 30 P3.6/~{INT2}/RXD_2, 31 P3.7/~{INT3}/TXD_2, 32 P4.1, 33 P4.2/~{WR}, 34 P4.3, 35 P4.4/~{RD}, 36 P2.0/A8/RSTOUT_LOW, 37 P2.1/A9/SCLK_2, 38 P2.2/A10, 39 P2.3/A11, 40 P2.4/A12, 41 P2.5/A13, 42 P2.6/A14, 43 P2.7/A15, 44 P4.5/ALE

## STC15W1K16S_SOP28_SKDIP28
designator U?
footprint SKDIP28
footprint SOP28
footprint TSSOP28
pins: 1 P2.6/A14, 2 P2.7/A15, 3 P1.0, 4 P1.1, 5 P1.2/SS/CMPO, 6 P1.3/MOSI, 7 P1.4/MISO, 8 P1.5/SCLK, 9 P1.6/RXD_3, 10 P1.7/TXD_3, 11 P5.4/RST/MCLKO/CMP-, 12 VCC, 13 P5.5/CMP+, 14 GND, 15 P3.0/RXD/~{INT4}/T2CLKO, 16 P3.1/TXD/T2, 17 P3.2/INT0, 18 P3.3/INT1, 19 P3.4/T0/T1CLKO, 20 P3.5/T1/T0CLKO, 21 P3.6/~{INT2}/RXD_2, 22 P3.7/~{INT3}/TXD_2, 23 P2.0/A8/RSTOUT_LOW, 24 P2.1/A9/SCLK_2, 25 P2.2/A10, 26 P2.3/A11, 27 P2.4/A12, 28 P2.5/A13

## STC15W1K16S_SOP32
designator U?
footprint SOP32
pins: 1 P0.0/AD0, 2 P0.1/AD1, 3 P0.2/AD2, 4 P0.3/AD3, 5 P1.0, 6 P1.1, 7 P1.2/SS/CMPO, 8 P1.3/MOSI, 9 P1.4/MISO, 10 P1.5/SCLK, 11 P1.6/RXD_3, 12 P1.7/TXD_3, 13 P5.4/RST/MCLKO/CMP-, 14 VCC, 15 P5.5/CMP+, 16 GND, 17 P3.0/RXD/~{INT4}/T2CLKO, 18 P3.1/TXD/T2, 19 P3.2/INT0, 20 P3.3/INT1, 21 P3.4/T0/T1CLKO, 22 P3.5/T1/T0CLKO, 23 P3.6/~{INT2}/RXD_2, 24 P3.7/~{INT3}/TXD_2, 25 P2.0/A8/RSTOUT_LOW, 26 P2.1/A9/SCLK_2, 27 P2.2/A10, 28 P2.3/A11, 29 P2.4/A12, 30 P2.5/A13, 31 P2.6/A14, 32 P2.7/A15

## STC15W1K16S_TSSOP20
designator U?
footprint TSSOP20
pins: 1 P1.0, 2 P1.1, 3 P1.4/MISO, 4 P1.5/SCLK, 5 P1.6/RxD_3/MCLKO_2, 6 P1.7/TxD_3, 7 P5.4/RST/MCLKO/CMP-, 8 Vcc, 9 P5.5/CMP+, 10 Gnd, 11 P3.0/RxD/~{INT4}/T2CLKO, 12 P3.1/TxD/T2, 13 P3.2/INT0, 14 P3.3/INT1, 15 P3.4/T0/T1CLKO, 16 P3.5/T1/T0CLKO, 17 P3.6/~{INT2}/RxD_2, 18 P3.7/~{INT3}/TxD_2, 19 P1.3/MOSI, 20 P1.2/SS/CMPO

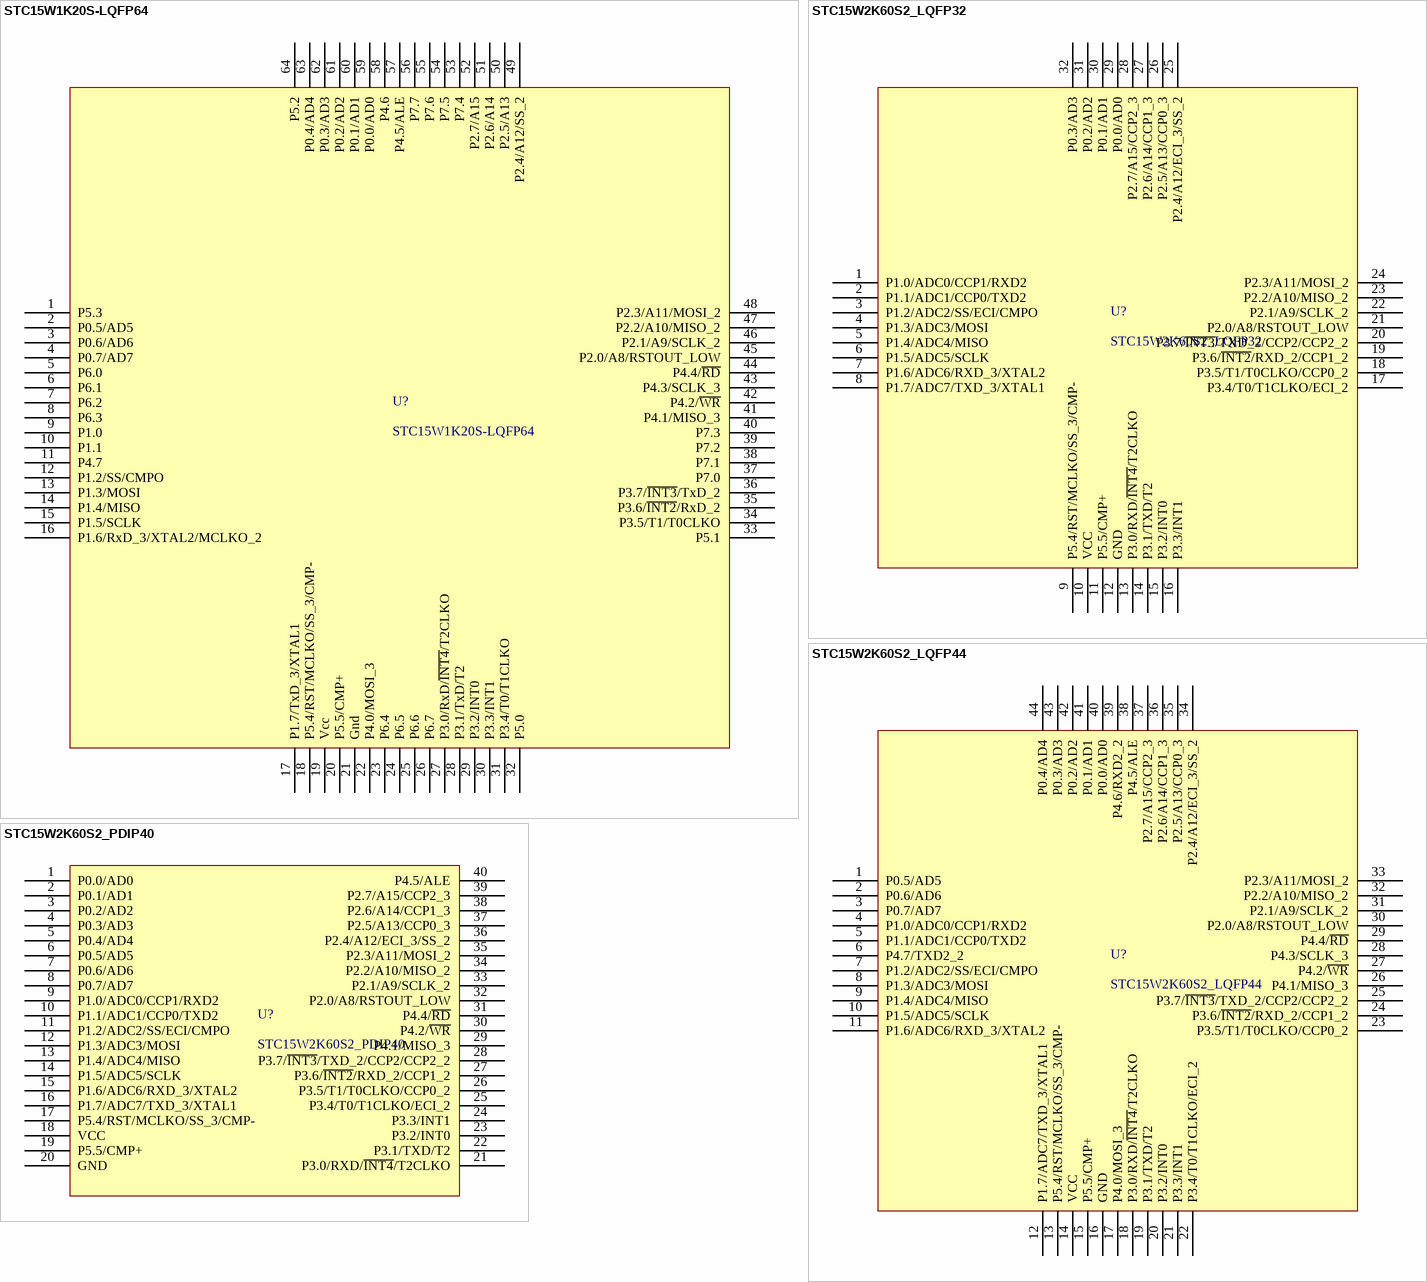
[diagram p5: symbols STC15W1K20S-LQFP64 to STC15W2K60S2_PDIP40]

## STC15W1K20S-LQFP64
designator U?
footprint LQFP64
footprint lqfp64s
footprint lqfp64l
pins: 1 P5.3, 2 P0.5/AD5, 3 P0.6/AD6, 4 P0.7/AD7, 5 P6.0, 6 P6.1, 7 P6.2, 8 P6.3, 9 P1.0, 10 P1.1, 11 P4.7, 12 P1.2/SS/CMPO, 13 P1.3/MOSI, 14 P1.4/MISO, 15 P1.5/SCLK, 16 P1.6/RxD_3/XTAL2/MCLKO_2, 17 P1.7/TxD_3/XTAL1, 18 P5.4/RST/MCLKO/SS_3/CMP-, 19 Vcc, 20 P5.5/CMP+, 21 Gnd, 22 P4.0/MOSI_3, 23 P6.4, 24 P6.5, 25 P6.6, 26 P6.7, 27 P3.0/RxD/~{INT4}/T2CLKO, 28 P3.1/TxD/T2, 29 P3.2/INT0, 30 P3.3/INT1, 31 P3.4/T0/T1CLKO, 32 P5.0, 33 P5.1, 34 P3.5/T1/T0CLKO, 35 P3.6/~{INT2}/RxD_2, 36 P3.7/~{INT3}/TxD_2, 37 P7.0, 38 P7.1, 39 P7.2, 40 P7.3, 41 P4.1/MISO_3, 42 P4.2/~{WR}, 43 P4.3/SCLK_3, 44 P4.4/~{RD}, 45 P2.0/A8/RSTOUT_LOW, 46 P2.1/A9/SCLK_2, 47 P2.2/A10/MISO_2, 48 P2.3/A11/MOSI_2, 49 P2.4/A12/SS_2, 50 P2.5/A13, 51 P2.6/A14, 52 P2.7/A15, 53 P7.4, 54 P7.5, 55 P7.6, 56 P7.7, 57 P4.5/ALE, 58 P4.6, 59 P0.0/AD0, 60 P0.1/AD1, 61 P0.2/AD2, 62 P0.3/AD3, 63 P0.4/AD4, 64 P5.2

## STC15W2K60S2_LQFP32
designator U?
footprint LQFP32
pins: 1 P1.0/ADC0/CCP1/RXD2, 2 P1.1/ADC1/CCP0/TXD2, 3 P1.2/ADC2/SS/ECI/CMPO, 4 P1.3/ADC3/MOSI, 5 P1.4/ADC4/MISO, 6 P1.5/ADC5/SCLK, 7 P1.6/ADC6/RXD_3/XTAL2, 8 P1.7/ADC7/TXD_3/XTAL1, 9 P5.4/RST/MCLKO/SS_3/CMP-, 10 VCC, 11 P5.5/CMP+, 12 GND, 13 P3.0/RXD/~{INT4}/T2CLKO, 14 P3.1/TXD/T2, 15 P3.2/INT0, 16 P3.3/INT1, 17 P3.4/T0/T1CLKO/ECI_2, 18 P3.5/T1/T0CLKO/CCP0_2, 19 P3.6/~{INT2}/RXD_2/CCP1_2, 20 P3.7/~{INT3}/TXD_2/CCP2/CCP2_2, 21 P2.0/A8/RSTOUT_LOW, 22 P2.1/A9/SCLK_2, 23 P2.2/A10/MISO_2, 24 P2.3/A11/MOSI_2, 25 P2.4/A12/ECI_3/SS_2, 26 P2.5/A13/CCP0_3, 27 P2.6/A14/CCP1_3, 28 P2.7/A15/CCP2_3, 29 P0.0/AD0, 30 P0.1/AD1, 31 P0.2/AD2, 32 P0.3/AD3

## STC15W2K60S2_LQFP44
designator U?
footprint LQFP44
footprint PQFP44
pins: 1 P0.5/AD5, 2 P0.6/AD6, 3 P0.7/AD7, 4 P1.0/ADC0/CCP1/RXD2, 5 P1.1/ADC1/CCP0/TXD2, 6 P4.7/TXD2_2, 7 P1.2/ADC2/SS/ECI/CMPO, 8 P1.3/ADC3/MOSI, 9 P1.4/ADC4/MISO, 10 P1.5/ADC5/SCLK, 11 P1.6/ADC6/RXD_3/XTAL2, 12 P1.7/ADC7/TXD_3/XTAL1, 13 P5.4/RST/MCLKO/SS_3/CMP-, 14 VCC, 15 P5.5/CMP+, 16 GND, 17 P4.0/MOSI_3, 18 P3.0/RXD/~{INT4}/T2CLKO, 19 P3.1/TXD/T2, 20 P3.2/INT0, 21 P3.3/INT1, 22 P3.4/T0/T1CLKO/ECI_2, 23 P3.5/T1/T0CLKO/CCP0_2, 24 P3.6/~{INT2}/RXD_2/CCP1_2, 25 P3.7/~{INT3}/TXD_2/CCP2/CCP2_2, 26 P4.1/MISO_3, 27 P4.2/~{WR}, 28 P4.3/SCLK_3, 29 P4.4/~{RD}, 30 P2.0/A8/RSTOUT_LOW, 31 P2.1/A9/SCLK_2, 32 P2.2/A10/MISO_2, 33 P2.3/A11/MOSI_2, 34 P2.4/A12/ECI_3/SS_2, 35 P2.5/A13/CCP0_3, 36 P2.6/A14/CCP1_3, 37 P2.7/A15/CCP2_3, 38 P4.5/ALE, 39 P4.6/RXD2_2, 40 P0.0/AD0, 41 P0.1/AD1, 42 P0.2/AD2, 43 P0.3/AD3, 44 P0.4/AD4

## STC15W2K60S2_PDIP40
designator U?
footprint DIP40
pins: 1 P0.0/AD0, 2 P0.1/AD1, 3 P0.2/AD2, 4 P0.3/AD3, 5 P0.4/AD4, 6 P0.5/AD5, 7 P0.6/AD6, 8 P0.7/AD7, 9 P1.0/ADC0/CCP1/RXD2, 10 P1.1/ADC1/CCP0/TXD2, 11 P1.2/ADC2/SS/ECI/CMPO, 12 P1.3/ADC3/MOSI, 13 P1.4/ADC4/MISO, 14 P1.5/ADC5/SCLK, 15 P1.6/ADC6/RXD_3/XTAL2, 16 P1.7/ADC7/TXD_3/XTAL1, 17 P5.4/RST/MCLKO/SS_3/CMP-, 18 VCC, 19 P5.5/CMP+, 20 GND, 21 P3.0/RXD/~{INT4}/T2CLKO, 22 P3.1/TXD/T2, 23 P3.2/INT0, 24 P3.3/INT1, 25 P3.4/T0/T1CLKO/ECI_2, 26 P3.5/T1/T0CLKO/CCP0_2, 27 P3.6/~{INT2}/RXD_2/CCP1_2, 28 P3.7/~{INT3}/TXD_2/CCP2/CCP2_2, 29 P4.1/MISO_3, 30 P4.2/~{WR}, 31 P4.4/~{RD}, 32 P2.0/A8/RSTOUT_LOW, 33 P2.1/A9/SCLK_2, 34 P2.2/A10/MISO_2, 35 P2.3/A11/MOSI_2, 36 P2.4/A12/ECI_3/SS_2, 37 P2.5/A13/CCP0_3, 38 P2.6/A14/CCP1_3, 39 P2.7/A15/CCP2_3, 40 P4.5/ALE

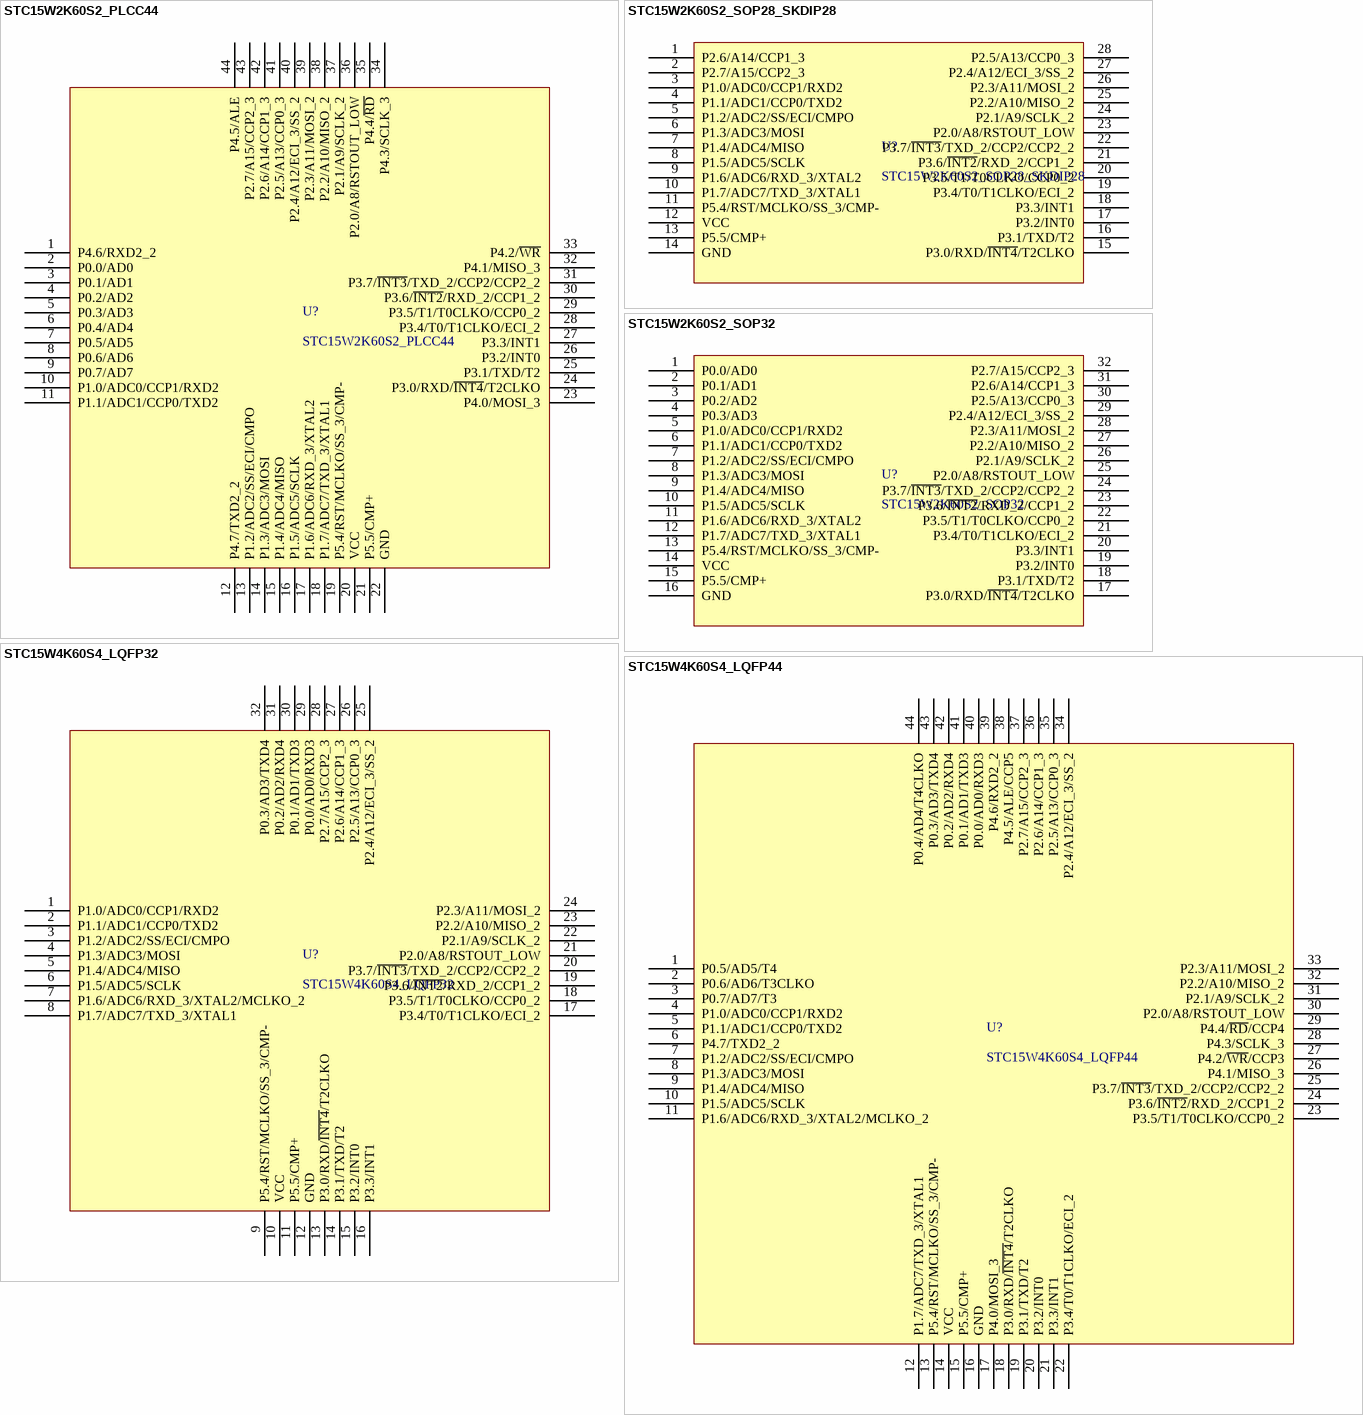
[diagram p6: symbols STC15W2K60S2_PLCC44 to STC15W4K60S4_LQFP44]

## STC15W2K60S2_PLCC44
designator U?
footprint PLCC44
pins: 1 P4.6/RXD2_2, 2 P0.0/AD0, 3 P0.1/AD1, 4 P0.2/AD2, 5 P0.3/AD3, 6 P0.4/AD4, 7 P0.5/AD5, 8 P0.6/AD6, 9 P0.7/AD7, 10 P1.0/ADC0/CCP1/RXD2, 11 P1.1/ADC1/CCP0/TXD2, 12 P4.7/TXD2_2, 13 P1.2/ADC2/SS/ECI/CMPO, 14 P1.3/ADC3/MOSI, 15 P1.4/ADC4/MISO, 16 P1.5/ADC5/SCLK, 17 P1.6/ADC6/RXD_3/XTAL2, 18 P1.7/ADC7/TXD_3/XTAL1, 19 P5.4/RST/MCLKO/SS_3/CMP-, 20 VCC, 21 P5.5/CMP+, 22 GND, 23 P4.0/MOSI_3, 24 P3.0/RXD/~{INT4}/T2CLKO, 25 P3.1/TXD/T2, 26 P3.2/INT0, 27 P3.3/INT1, 28 P3.4/T0/T1CLKO/ECI_2, 29 P3.5/T1/T0CLKO/CCP0_2, 30 P3.6/~{INT2}/RXD_2/CCP1_2, 31 P3.7/~{INT3}/TXD_2/CCP2/CCP2_2, 32 P4.1/MISO_3, 33 P4.2/~{WR}, 34 P4.3/SCLK_3, 35 P4.4/~{RD}, 36 P2.0/A8/RSTOUT_LOW, 37 P2.1/A9/SCLK_2, 38 P2.2/A10/MISO_2, 39 P2.3/A11/MOSI_2, 40 P2.4/A12/ECI_3/SS_2, 41 P2.5/A13/CCP0_3, 42 P2.6/A14/CCP1_3, 43 P2.7/A15/CCP2_3, 44 P4.5/ALE

## STC15W2K60S2_SOP28_SKDIP28
designator U?
footprint SKDIP28
footprint SOP28
footprint TSSOP28
pins: 1 P2.6/A14/CCP1_3, 2 P2.7/A15/CCP2_3, 3 P1.0/ADC0/CCP1/RXD2, 4 P1.1/ADC1/CCP0/TXD2, 5 P1.2/ADC2/SS/ECI/CMPO, 6 P1.3/ADC3/MOSI, 7 P1.4/ADC4/MISO, 8 P1.5/ADC5/SCLK, 9 P1.6/ADC6/RXD_3/XTAL2, 10 P1.7/ADC7/TXD_3/XTAL1, 11 P5.4/RST/MCLKO/SS_3/CMP-, 12 VCC, 13 P5.5/CMP+, 14 GND, 15 P3.0/RXD/~{INT4}/T2CLKO, 16 P3.1/TXD/T2, 17 P3.2/INT0, 18 P3.3/INT1, 19 P3.4/T0/T1CLKO/ECI_2, 20 P3.5/T1/T0CLKO/CCP0_2, 21 P3.6/~{INT2}/RXD_2/CCP1_2, 22 P3.7/~{INT3}/TXD_2/CCP2/CCP2_2, 23 P2.0/A8/RSTOUT_LOW, 24 P2.1/A9/SCLK_2, 25 P2.2/A10/MISO_2, 26 P2.3/A11/MOSI_2, 27 P2.4/A12/ECI_3/SS_2, 28 P2.5/A13/CCP0_3

## STC15W2K60S2_SOP32
designator U?
footprint SOP32
pins: 1 P0.0/AD0, 2 P0.1/AD1, 3 P0.2/AD2, 4 P0.3/AD3, 5 P1.0/ADC0/CCP1/RXD2, 6 P1.1/ADC1/CCP0/TXD2, 7 P1.2/ADC2/SS/ECI/CMPO, 8 P1.3/ADC3/MOSI, 9 P1.4/ADC4/MISO, 10 P1.5/ADC5/SCLK, 11 P1.6/ADC6/RXD_3/XTAL2, 12 P1.7/ADC7/TXD_3/XTAL1, 13 P5.4/RST/MCLKO/SS_3/CMP-, 14 VCC, 15 P5.5/CMP+, 16 GND, 17 P3.0/RXD/~{INT4}/T2CLKO, 18 P3.1/TXD/T2, 19 P3.2/INT0, 20 P3.3/INT1, 21 P3.4/T0/T1CLKO/ECI_2, 22 P3.5/T1/T0CLKO/CCP0_2, 23 P3.6/~{INT2}/RXD_2/CCP1_2, 24 P3.7/~{INT3}/TXD_2/CCP2/CCP2_2, 25 P2.0/A8/RSTOUT_LOW, 26 P2.1/A9/SCLK_2, 27 P2.2/A10/MISO_2, 28 P2.3/A11/MOSI_2, 29 P2.4/A12/ECI_3/SS_2, 30 P2.5/A13/CCP0_3, 31 P2.6/A14/CCP1_3, 32 P2.7/A15/CCP2_3

## STC15W4K60S4_LQFP32
designator U?
footprint LQFP32
pins: 1 P1.0/ADC0/CCP1/RXD2, 2 P1.1/ADC1/CCP0/TXD2, 3 P1.2/ADC2/SS/ECI/CMPO, 4 P1.3/ADC3/MOSI, 5 P1.4/ADC4/MISO, 6 P1.5/ADC5/SCLK, 7 P1.6/ADC6/RXD_3/XTAL2/MCLKO_2, 8 P1.7/ADC7/TXD_3/XTAL1, 9 P5.4/RST/MCLKO/SS_3/CMP-, 10 VCC, 11 P5.5/CMP+, 12 GND, 13 P3.0/RXD/~{INT4}/T2CLKO, 14 P3.1/TXD/T2, 15 P3.2/INT0, 16 P3.3/INT1, 17 P3.4/T0/T1CLKO/ECI_2, 18 P3.5/T1/T0CLKO/CCP0_2, 19 P3.6/~{INT2}/RXD_2/CCP1_2, 20 P3.7/~{INT3}/TXD_2/CCP2/CCP2_2, 21 P2.0/A8/RSTOUT_LOW, 22 P2.1/A9/SCLK_2, 23 P2.2/A10/MISO_2, 24 P2.3/A11/MOSI_2, 25 P2.4/A12/ECI_3/SS_2, 26 P2.5/A13/CCP0_3, 27 P2.6/A14/CCP1_3, 28 P2.7/A15/CCP2_3, 29 P0.0/AD0/RXD3, 30 P0.1/AD1/TXD3, 31 P0.2/AD2/RXD4, 32 P0.3/AD3/TXD4

## STC15W4K60S4_LQFP44
designator U?
footprint LQFP44
footprint PQFP44
pins: 1 P0.5/AD5/T4, 2 P0.6/AD6/T3CLKO, 3 P0.7/AD7/T3, 4 P1.0/ADC0/CCP1/RXD2, 5 P1.1/ADC1/CCP0/TXD2, 6 P4.7/TXD2_2, 7 P1.2/ADC2/SS/ECI/CMPO, 8 P1.3/ADC3/MOSI, 9 P1.4/ADC4/MISO, 10 P1.5/ADC5/SCLK, 11 P1.6/ADC6/RXD_3/XTAL2/MCLKO_2, 12 P1.7/ADC7/TXD_3/XTAL1, 13 P5.4/RST/MCLKO/SS_3/CMP-, 14 VCC, 15 P5.5/CMP+, 16 GND, 17 P4.0/MOSI_3, 18 P3.0/RXD/~{INT4}/T2CLKO, 19 P3.1/TXD/T2, 20 P3.2/INT0, 21 P3.3/INT1, 22 P3.4/T0/T1CLKO/ECI_2, 23 P3.5/T1/T0CLKO/CCP0_2, 24 P3.6/~{INT2}/RXD_2/CCP1_2, 25 P3.7/~{INT3}/TXD_2/CCP2/CCP2_2, 26 P4.1/MISO_3, 27 P4.2/~{WR}/CCP3, 28 P4.3/SCLK_3, 29 P4.4/~{RD}/CCP4, 30 P2.0/A8/RSTOUT_LOW, 31 P2.1/A9/SCLK_2, 32 P2.2/A10/MISO_2, 33 P2.3/A11/MOSI_2, 34 P2.4/A12/ECI_3/SS_2, 35 P2.5/A13/CCP0_3, 36 P2.6/A14/CCP1_3, 37 P2.7/A15/CCP2_3, 38 P4.5/ALE/CCP5, 39 P4.6/RXD2_2, 40 P0.0/AD0/RXD3, 41 P0.1/AD1/TXD3, 42 P0.2/AD2/RXD4, 43 P0.3/AD3/TXD4, 44 P0.4/AD4/T4CLKO

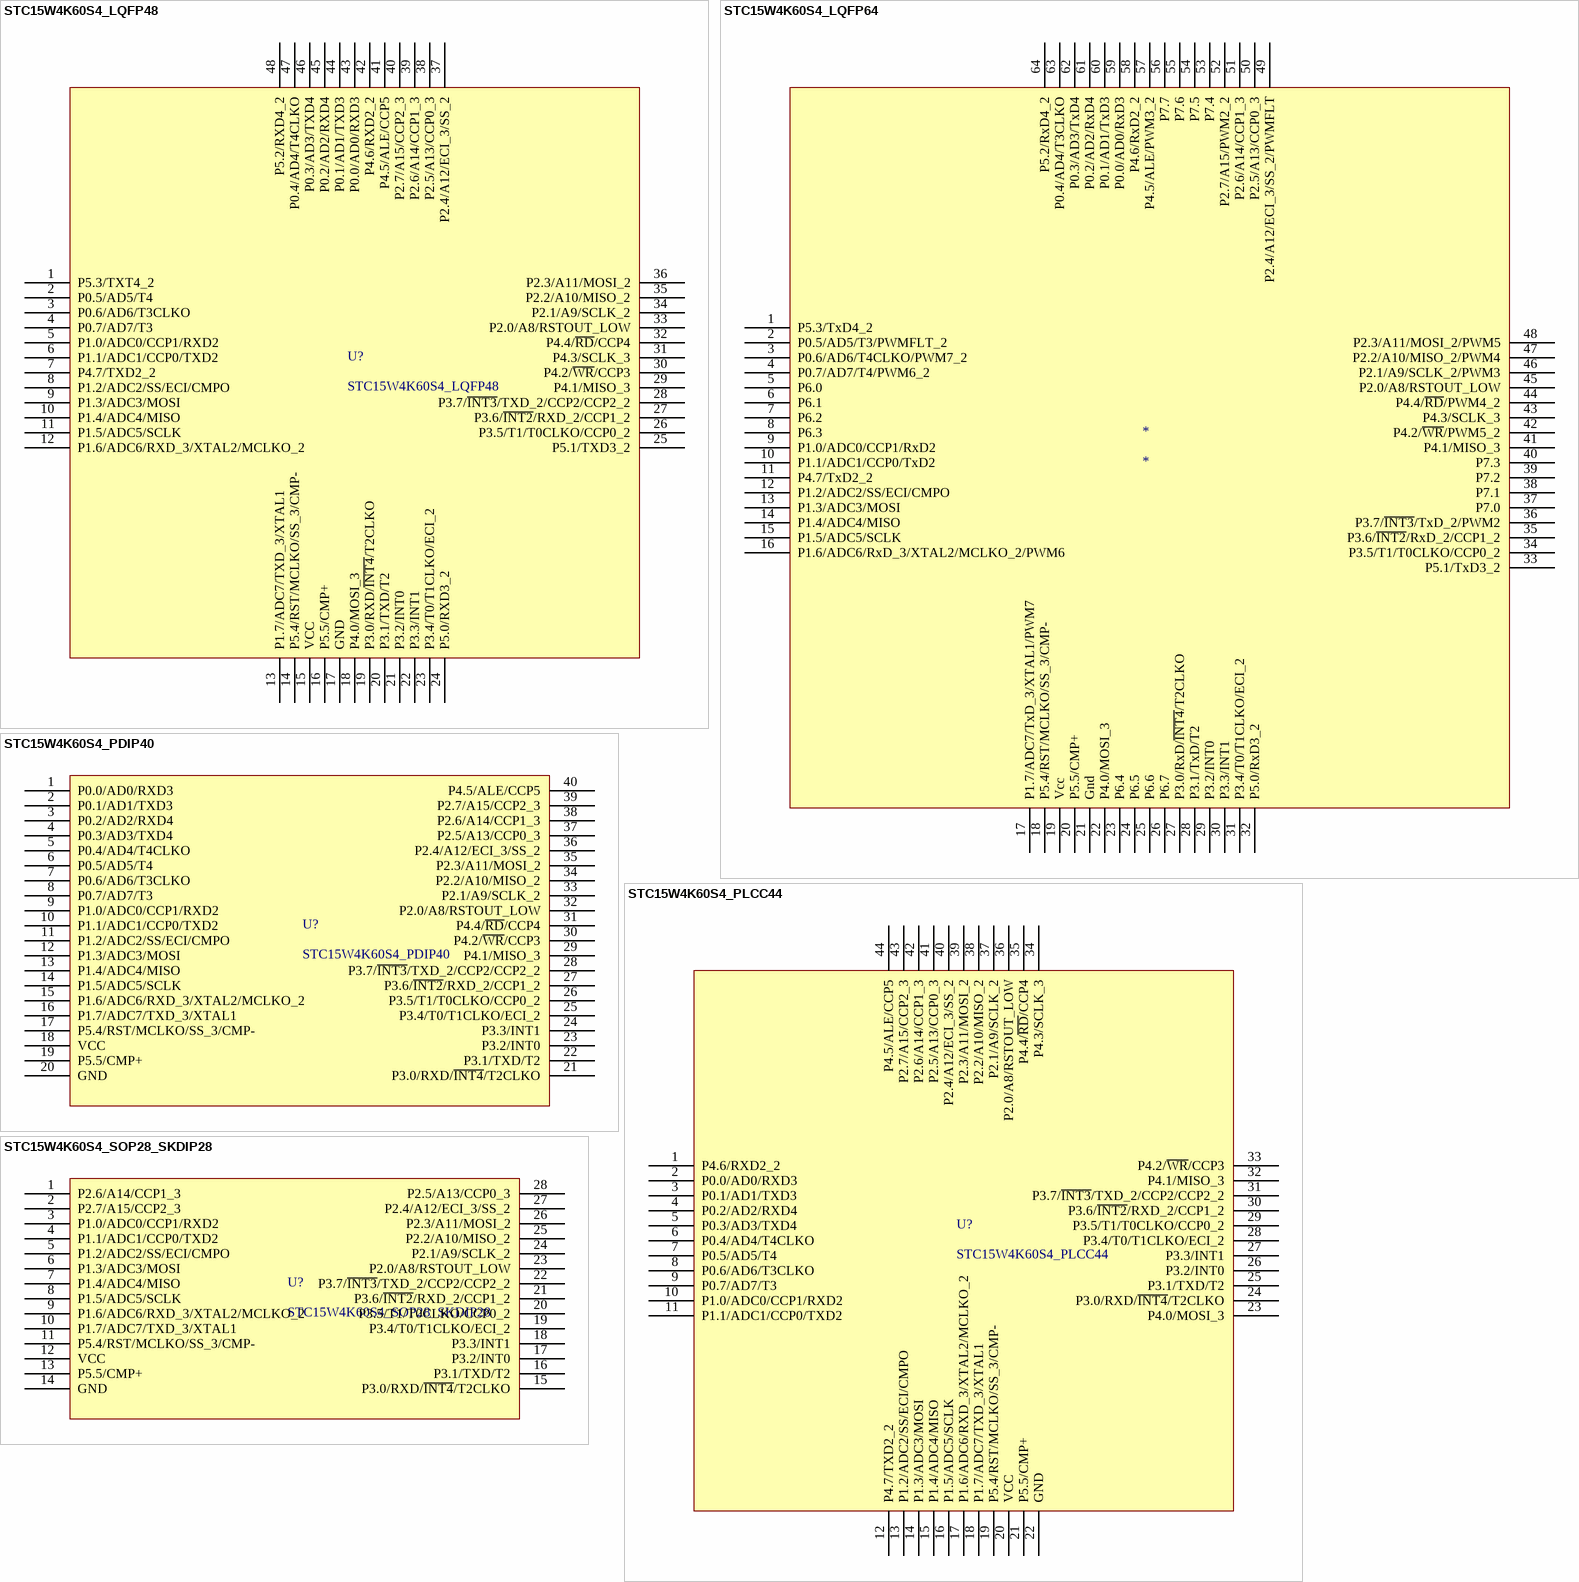
[diagram p7: symbols STC15W4K60S4_LQFP48 to STC15W4K60S4_SOP28_SKDIP28]

## STC15W4K60S4_LQFP48
designator U?
footprint LQFP48
pins: 1 P5.3/TXT4_2, 2 P0.5/AD5/T4, 3 P0.6/AD6/T3CLKO, 4 P0.7/AD7/T3, 5 P1.0/ADC0/CCP1/RXD2, 6 P1.1/ADC1/CCP0/TXD2, 7 P4.7/TXD2_2, 8 P1.2/ADC2/SS/ECI/CMPO, 9 P1.3/ADC3/MOSI, 10 P1.4/ADC4/MISO, 11 P1.5/ADC5/SCLK, 12 P1.6/ADC6/RXD_3/XTAL2/MCLKO_2, 13 P1.7/ADC7/TXD_3/XTAL1, 14 P5.4/RST/MCLKO/SS_3/CMP-, 15 VCC, 16 P5.5/CMP+, 17 GND, 18 P4.0/MOSI_3, 19 P3.0/RXD/~{INT4}/T2CLKO, 20 P3.1/TXD/T2, 21 P3.2/INT0, 22 P3.3/INT1, 23 P3.4/T0/T1CLKO/ECI_2, 24 P5.0/RXD3_2, 25 P5.1/TXD3_2, 26 P3.5/T1/T0CLKO/CCP0_2, 27 P3.6/~{INT2}/RXD_2/CCP1_2, 28 P3.7/~{INT3}/TXD_2/CCP2/CCP2_2, 29 P4.1/MISO_3, 30 P4.2/~{WR}/CCP3, 31 P4.3/SCLK_3, 32 P4.4/~{RD}/CCP4, 33 P2.0/A8/RSTOUT_LOW, 34 P2.1/A9/SCLK_2, 35 P2.2/A10/MISO_2, 36 P2.3/A11/MOSI_2, 37 P2.4/A12/ECI_3/SS_2, 38 P2.5/A13/CCP0_3, 39 P2.6/A14/CCP1_3, 40 P2.7/A15/CCP2_3, 41 P4.5/ALE/CCP5, 42 P4.6/RXD2_2, 43 P0.0/AD0/RXD3, 44 P0.1/AD1/TXD3, 45 P0.2/AD2/RXD4, 46 P0.3/AD3/TXD4, 47 P0.4/AD4/T4CLKO, 48 P5.2/RXD4_2

## STC15W4K60S4_LQFP64
designator *
footprint LQFP64
pins: 1 P5.3/TxD4_2, 2 P0.5/AD5/T3/PWMFLT_2, 3 P0.6/AD6/T4CLKO/PWM7_2, 4 P0.7/AD7/T4/PWM6_2, 5 P6.0, 6 P6.1, 7 P6.2, 8 P6.3, 9 P1.0/ADC0/CCP1/RxD2, 10 P1.1/ADC1/CCP0/TxD2, 11 P4.7/TxD2_2, 12 P1.2/ADC2/SS/ECI/CMPO, 13 P1.3/ADC3/MOSI, 14 P1.4/ADC4/MISO, 15 P1.5/ADC5/SCLK, 16 P1.6/ADC6/RxD_3/XTAL2/MCLKO_2/PWM6, 17 P1.7/ADC7/TxD_3/XTAL1/PWM7, 18 P5.4/RST/MCLKO/SS_3/CMP-, 19 Vcc, 20 P5.5/CMP+, 21 Gnd, 22 P4.0/MOSI_3, 23 P6.4, 24 P6.5, 25 P6.6, 26 P6.7, 27 P3.0/RxD/~{INT4}/T2CLKO, 28 P3.1/TxD/T2, 29 P3.2/INT0, 30 P3.3/INT1, 31 P3.4/T0/T1CLKO/ECI_2, 32 P5.0/RxD3_2, 33 P5.1/TxD3_2, 34 P3.5/T1/T0CLKO/CCP0_2, 35 P3.6/~{INT2}/RxD_2/CCP1_2, 36 P3.7/~{INT3}/TxD_2/PWM2, 37 P7.0, 38 P7.1, 39 P7.2, 40 P7.3, 41 P4.1/MISO_3, 42 P4.2/~{WR}/PWM5_2, 43 P4.3/SCLK_3, 44 P4.4/~{RD}/PWM4_2, 45 P2.0/A8/RSTOUT_LOW, 46 P2.1/A9/SCLK_2/PWM3, 47 P2.2/A10/MISO_2/PWM4, 48 P2.3/A11/MOSI_2/PWM5, 49 P2.4/A12/ECI_3/SS_2/PWMFLT, 50 P2.5/A13/CCP0_3, 51 P2.6/A14/CCP1_3, 52 P2.7/A15/PWM2_2, 53 P7.4, 54 P7.5, 55 P7.6, 56 P7.7, 57 P4.5/ALE/PWM3_2, 58 P4.6/RxD2_2, 59 P0.0/AD0/RxD3, 60 P0.1/AD1/TxD3, 61 P0.2/AD2/RxD4, 62 P0.3/AD3/TxD4, 63 P0.4/AD4/T3CLKO, 64 P5.2/RxD4_2

## STC15W4K60S4_PDIP40
designator U?
footprint DIP40
pins: 1 P0.0/AD0/RXD3, 2 P0.1/AD1/TXD3, 3 P0.2/AD2/RXD4, 4 P0.3/AD3/TXD4, 5 P0.4/AD4/T4CLKO, 6 P0.5/AD5/T4, 7 P0.6/AD6/T3CLKO, 8 P0.7/AD7/T3, 9 P1.0/ADC0/CCP1/RXD2, 10 P1.1/ADC1/CCP0/TXD2, 11 P1.2/ADC2/SS/ECI/CMPO, 12 P1.3/ADC3/MOSI, 13 P1.4/ADC4/MISO, 14 P1.5/ADC5/SCLK, 15 P1.6/ADC6/RXD_3/XTAL2/MCLKO_2, 16 P1.7/ADC7/TXD_3/XTAL1, 17 P5.4/RST/MCLKO/SS_3/CMP-, 18 VCC, 19 P5.5/CMP+, 20 GND, 21 P3.0/RXD/~{INT4}/T2CLKO, 22 P3.1/TXD/T2, 23 P3.2/INT0, 24 P3.3/INT1, 25 P3.4/T0/T1CLKO/ECI_2, 26 P3.5/T1/T0CLKO/CCP0_2, 27 P3.6/~{INT2}/RXD_2/CCP1_2, 28 P3.7/~{INT3}/TXD_2/CCP2/CCP2_2, 29 P4.1/MISO_3, 30 P4.2/~{WR}/CCP3, 31 P4.4/~{RD}/CCP4, 32 P2.0/A8/RSTOUT_LOW, 33 P2.1/A9/SCLK_2, 34 P2.2/A10/MISO_2, 35 P2.3/A11/MOSI_2, 36 P2.4/A12/ECI_3/SS_2, 37 P2.5/A13/CCP0_3, 38 P2.6/A14/CCP1_3, 39 P2.7/A15/CCP2_3, 40 P4.5/ALE/CCP5

## STC15W4K60S4_PLCC44
designator U?
footprint PLCC44
pins: 1 P4.6/RXD2_2, 2 P0.0/AD0/RXD3, 3 P0.1/AD1/TXD3, 4 P0.2/AD2/RXD4, 5 P0.3/AD3/TXD4, 6 P0.4/AD4/T4CLKO, 7 P0.5/AD5/T4, 8 P0.6/AD6/T3CLKO, 9 P0.7/AD7/T3, 10 P1.0/ADC0/CCP1/RXD2, 11 P1.1/ADC1/CCP0/TXD2, 12 P4.7/TXD2_2, 13 P1.2/ADC2/SS/ECI/CMPO, 14 P1.3/ADC3/MOSI, 15 P1.4/ADC4/MISO, 16 P1.5/ADC5/SCLK, 17 P1.6/ADC6/RXD_3/XTAL2/MCLKO_2, 18 P1.7/ADC7/TXD_3/XTAL1, 19 P5.4/RST/MCLKO/SS_3/CMP-, 20 VCC, 21 P5.5/CMP+, 22 GND, 23 P4.0/MOSI_3, 24 P3.0/RXD/~{INT4}/T2CLKO, 25 P3.1/TXD/T2, 26 P3.2/INT0, 27 P3.3/INT1, 28 P3.4/T0/T1CLKO/ECI_2, 29 P3.5/T1/T0CLKO/CCP0_2, 30 P3.6/~{INT2}/RXD_2/CCP1_2, 31 P3.7/~{INT3}/TXD_2/CCP2/CCP2_2, 32 P4.1/MISO_3, 33 P4.2/~{WR}/CCP3, 34 P4.3/SCLK_3, 35 P4.4/~{RD}/CCP4, 36 P2.0/A8/RSTOUT_LOW, 37 P2.1/A9/SCLK_2, 38 P2.2/A10/MISO_2, 39 P2.3/A11/MOSI_2, 40 P2.4/A12/ECI_3/SS_2, 41 P2.5/A13/CCP0_3, 42 P2.6/A14/CCP1_3, 43 P2.7/A15/CCP2_3, 44 P4.5/ALE/CCP5

## STC15W4K60S4_SOP28_SKDIP28
designator U?
footprint SKDIP28
footprint SOP28
footprint TSSOP28
pins: 1 P2.6/A14/CCP1_3, 2 P2.7/A15/CCP2_3, 3 P1.0/ADC0/CCP1/RXD2, 4 P1.1/ADC1/CCP0/TXD2, 5 P1.2/ADC2/SS/ECI/CMPO, 6 P1.3/ADC3/MOSI, 7 P1.4/ADC4/MISO, 8 P1.5/ADC5/SCLK, 9 P1.6/ADC6/RXD_3/XTAL2/MCLKO_2, 10 P1.7/ADC7/TXD_3/XTAL1, 11 P5.4/RST/MCLKO/SS_3/CMP-, 12 VCC, 13 P5.5/CMP+, 14 GND, 15 P3.0/RXD/~{INT4}/T2CLKO, 16 P3.1/TXD/T2, 17 P3.2/INT0, 18 P3.3/INT1, 19 P3.4/T0/T1CLKO/ECI_2, 20 P3.5/T1/T0CLKO/CCP0_2, 21 P3.6/~{INT2}/RXD_2/CCP1_2, 22 P3.7/~{INT3}/TXD_2/CCP2/CCP2_2, 23 P2.0/A8/RSTOUT_LOW, 24 P2.1/A9/SCLK_2, 25 P2.2/A10/MISO_2, 26 P2.3/A11/MOSI_2, 27 P2.4/A12/ECI_3/SS_2, 28 P2.5/A13/CCP0_3

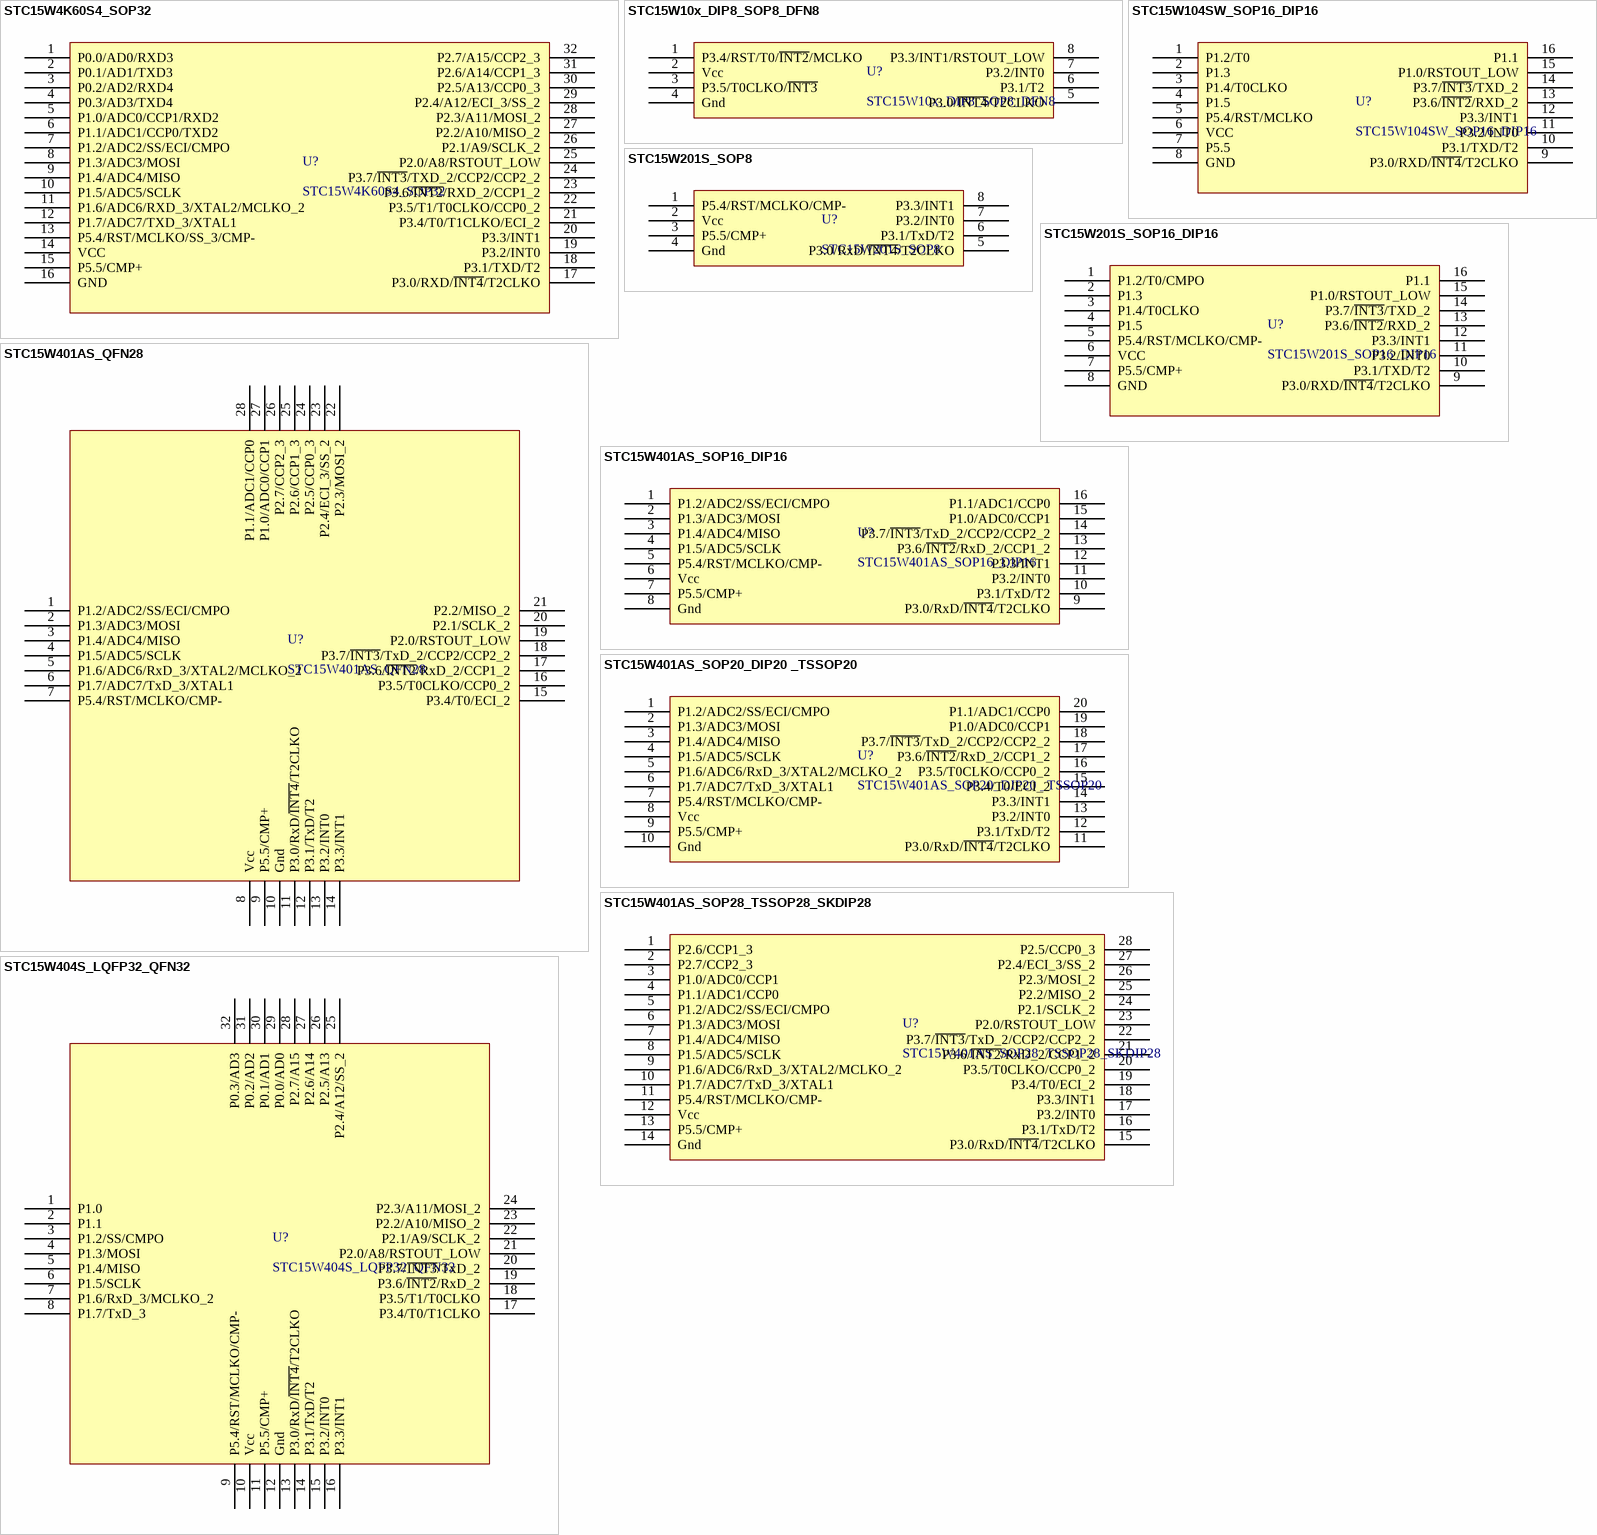
[diagram p8: symbols STC15W4K60S4_SOP32 to STC15W404S_LQFP32_QFN32]

## STC15W4K60S4_SOP32
designator U?
footprint SOP32
pins: 1 P0.0/AD0/RXD3, 2 P0.1/AD1/TXD3, 3 P0.2/AD2/RXD4, 4 P0.3/AD3/TXD4, 5 P1.0/ADC0/CCP1/RXD2, 6 P1.1/ADC1/CCP0/TXD2, 7 P1.2/ADC2/SS/ECI/CMPO, 8 P1.3/ADC3/MOSI, 9 P1.4/ADC4/MISO, 10 P1.5/ADC5/SCLK, 11 P1.6/ADC6/RXD_3/XTAL2/MCLKO_2, 12 P1.7/ADC7/TXD_3/XTAL1, 13 P5.4/RST/MCLKO/SS_3/CMP-, 14 VCC, 15 P5.5/CMP+, 16 GND, 17 P3.0/RXD/~{INT4}/T2CLKO, 18 P3.1/TXD/T2, 19 P3.2/INT0, 20 P3.3/INT1, 21 P3.4/T0/T1CLKO/ECI_2, 22 P3.5/T1/T0CLKO/CCP0_2, 23 P3.6/~{INT2}/RXD_2/CCP1_2, 24 P3.7/~{INT3}/TXD_2/CCP2/CCP2_2, 25 P2.0/A8/RSTOUT_LOW, 26 P2.1/A9/SCLK_2, 27 P2.2/A10/MISO_2, 28 P2.3/A11/MOSI_2, 29 P2.4/A12/ECI_3/SS_2, 30 P2.5/A13/CCP0_3, 31 P2.6/A14/CCP1_3, 32 P2.7/A15/CCP2_3

## STC15W10x_DIP8_SOP8_DFN8
designator U?
footprint DFN8
footprint DIP8
footprint SOP8
pins: 1 P3.4/RST/T0/~{INT2}/MCLKO, 2 Vcc, 3 P3.5/T0CLKO/~{INT3}, 4 Gnd, 5 P3.0/~{INT4}/T2CLKO, 6 P3.1/T2, 7 P3.2/INT0, 8 P3.3/INT1/RSTOUT_LOW

## STC15W104SW_SOP16_DIP16
designator U?
footprint DIP16
footprint SOP16
pins: 1 P1.2/T0, 2 P1.3, 3 P1.4/T0CLKO, 4 P1.5, 5 P5.4/RST/MCLKO, 6 VCC, 7 P5.5, 8 GND, 9 P3.0/RXD/~{INT4}/T2CLKO, 10 P3.1/TXD/T2, 11 P3.2/INT0, 12 P3.3/INT1, 13 P3.6/~{INT2}/RXD_2, 14 P3.7/~{INT3}/TXD_2, 15 P1.0/RSTOUT_LOW, 16 P1.1

## STC15W201S_SOP8
designator U?
footprint SOP8
pins: 1 P5.4/RST/MCLKO/CMP-, 2 Vcc, 3 P5.5/CMP+, 4 Gnd, 5 P3.0/RxD/~{INT4}/T2CLKO, 6 P3.1/TxD/T2, 7 P3.2/INT0, 8 P3.3/INT1

## STC15W201S_SOP16_DIP16
designator U?
footprint DIP16
footprint SOP16
pins: 1 P1.2/T0/CMPO, 2 P1.3, 3 P1.4/T0CLKO, 4 P1.5, 5 P5.4/RST/MCLKO/CMP-, 6 VCC, 7 P5.5/CMP+, 8 GND, 9 P3.0/RXD/~{INT4}/T2CLKO, 10 P3.1/TXD/T2, 11 P3.2/INT0, 12 P3.3/INT1, 13 P3.6/~{INT2}/RXD_2, 14 P3.7/~{INT3}/TXD_2, 15 P1.0/RSTOUT_LOW, 16 P1.1

## STC15W401AS_QFN28
designator U?
footprint QFN28
pins: 1 P1.2/ADC2/SS/ECI/CMPO, 2 P1.3/ADC3/MOSI, 3 P1.4/ADC4/MISO, 4 P1.5/ADC5/SCLK, 5 P1.6/ADC6/RxD_3/XTAL2/MCLKO_2, 6 P1.7/ADC7/TxD_3/XTAL1, 7 P5.4/RST/MCLKO/CMP-, 8 Vcc, 9 P5.5/CMP+, 10 Gnd, 11 P3.0/RxD/~{INT4}/T2CLKO, 12 P3.1/TxD/T2, 13 P3.2/INT0, 14 P3.3/INT1, 15 P3.4/T0/ECI_2, 16 P3.5/T0CLKO/CCP0_2, 17 P3.6/~{INT2}/RxD_2/CCP1_2, 18 P3.7/~{INT3}/TxD_2/CCP2/CCP2_2, 19 P2.0/RSTOUT_LOW, 20 P2.1/SCLK_2, 21 P2.2/MISO_2, 22 P2.3/MOSI_2, 23 P2.4/ECI_3/SS_2, 24 P2.5/CCP0_3, 25 P2.6/CCP1_3, 26 P2.7/CCP2_3, 27 P1.0/ADC0/CCP1, 28 P1.1/ADC1/CCP0

## STC15W401AS_SOP16_DIP16
designator U?
footprint SOP16
footprint DIP16
pins: 1 P1.2/ADC2/SS/ECI/CMPO, 2 P1.3/ADC3/MOSI, 3 P1.4/ADC4/MISO, 4 P1.5/ADC5/SCLK, 5 P5.4/RST/MCLKO/CMP-, 6 Vcc, 7 P5.5/CMP+, 8 Gnd, 9 P3.0/RxD/~{INT4}/T2CLKO, 10 P3.1/TxD/T2, 11 P3.2/INT0, 12 P3.3/INT1, 13 P3.6/~{INT2}/RxD_2/CCP1_2, 14 P3.7/~{INT3}/TxD_2/CCP2/CCP2_2, 15 P1.0/ADC0/CCP1, 16 P1.1/ADC1/CCP0

## STC15W401AS_SOP20_DIP20 _TSSOP20
designator U?
footprint SOP20
footprint DIP20
footprint TSSOP20
pins: 1 P1.2/ADC2/SS/ECI/CMPO, 2 P1.3/ADC3/MOSI, 3 P1.4/ADC4/MISO, 4 P1.5/ADC5/SCLK, 5 P1.6/ADC6/RxD_3/XTAL2/MCLKO_2, 6 P1.7/ADC7/TxD_3/XTAL1, 7 P5.4/RST/MCLKO/CMP-, 8 Vcc, 9 P5.5/CMP+, 10 Gnd, 11 P3.0/RxD/~{INT4}/T2CLKO, 12 P3.1/TxD/T2, 13 P3.2/INT0, 14 P3.3/INT1, 15 P3.4/T0/ECI_2, 16 P3.5/T0CLKO/CCP0_2, 17 P3.6/~{INT2}/RxD_2/CCP1_2, 18 P3.7/~{INT3}/TxD_2/CCP2/CCP2_2, 19 P1.0/ADC0/CCP1, 20 P1.1/ADC1/CCP0

## STC15W401AS_SOP28_TSSOP28_SKDIP28
designator U?
footprint SOP28
footprint TSSOP28
footprint SKDIP28
pins: 1 P2.6/CCP1_3, 2 P2.7/CCP2_3, 3 P1.0/ADC0/CCP1, 4 P1.1/ADC1/CCP0, 5 P1.2/ADC2/SS/ECI/CMPO, 6 P1.3/ADC3/MOSI, 7 P1.4/ADC4/MISO, 8 P1.5/ADC5/SCLK, 9 P1.6/ADC6/RxD_3/XTAL2/MCLKO_2, 10 P1.7/ADC7/TxD_3/XTAL1, 11 P5.4/RST/MCLKO/CMP-, 12 Vcc, 13 P5.5/CMP+, 14 Gnd, 15 P3.0/RxD/~{INT4}/T2CLKO, 16 P3.1/TxD/T2, 17 P3.2/INT0, 18 P3.3/INT1, 19 P3.4/T0/ECI_2, 20 P3.5/T0CLKO/CCP0_2, 21 P3.6/~{INT2}/RxD_2/CCP1_2, 22 P3.7/~{INT3}/TxD_2/CCP2/CCP2_2, 23 P2.0/RSTOUT_LOW, 24 P2.1/SCLK_2, 25 P2.2/MISO_2, 26 P2.3/MOSI_2, 27 P2.4/ECI_3/SS_2, 28 P2.5/CCP0_3

## STC15W404S_LQFP32_QFN32
designator U?
footprint LQFP32
footprint QFN32 (Footprint not found)
pins: 1 P1.0, 2 P1.1, 3 P1.2/SS/CMPO, 4 P1.3/MOSI, 5 P1.4/MISO, 6 P1.5/SCLK, 7 P1.6/RxD_3/MCLKO_2, 8 P1.7/TxD_3, 9 P5.4/RST/MCLKO/CMP-, 10 Vcc, 11 P5.5/CMP+, 12 Gnd, 13 P3.0/RxD/~{INT4}/T2CLKO, 14 P3.1/TxD/T2, 15 P3.2/INT0, 16 P3.3/INT1, 17 P3.4/T0/T1CLKO, 18 P3.5/T1/T0CLKO, 19 P3.6/~{INT2}/RxD_2, 20 P3.7/~{INT3}/TxD_2, 21 P2.0/A8/RSTOUT_LOW, 22 P2.1/A9/SCLK_2, 23 P2.2/A10/MISO_2, 24 P2.3/A11/MOSI_2, 25 P2.4/A12/SS_2, 26 P2.5/A13, 27 P2.6/A14, 28 P2.7/A15, 29 P0.0/AD0, 30 P0.1/AD1, 31 P0.2/AD2, 32 P0.3/AD3

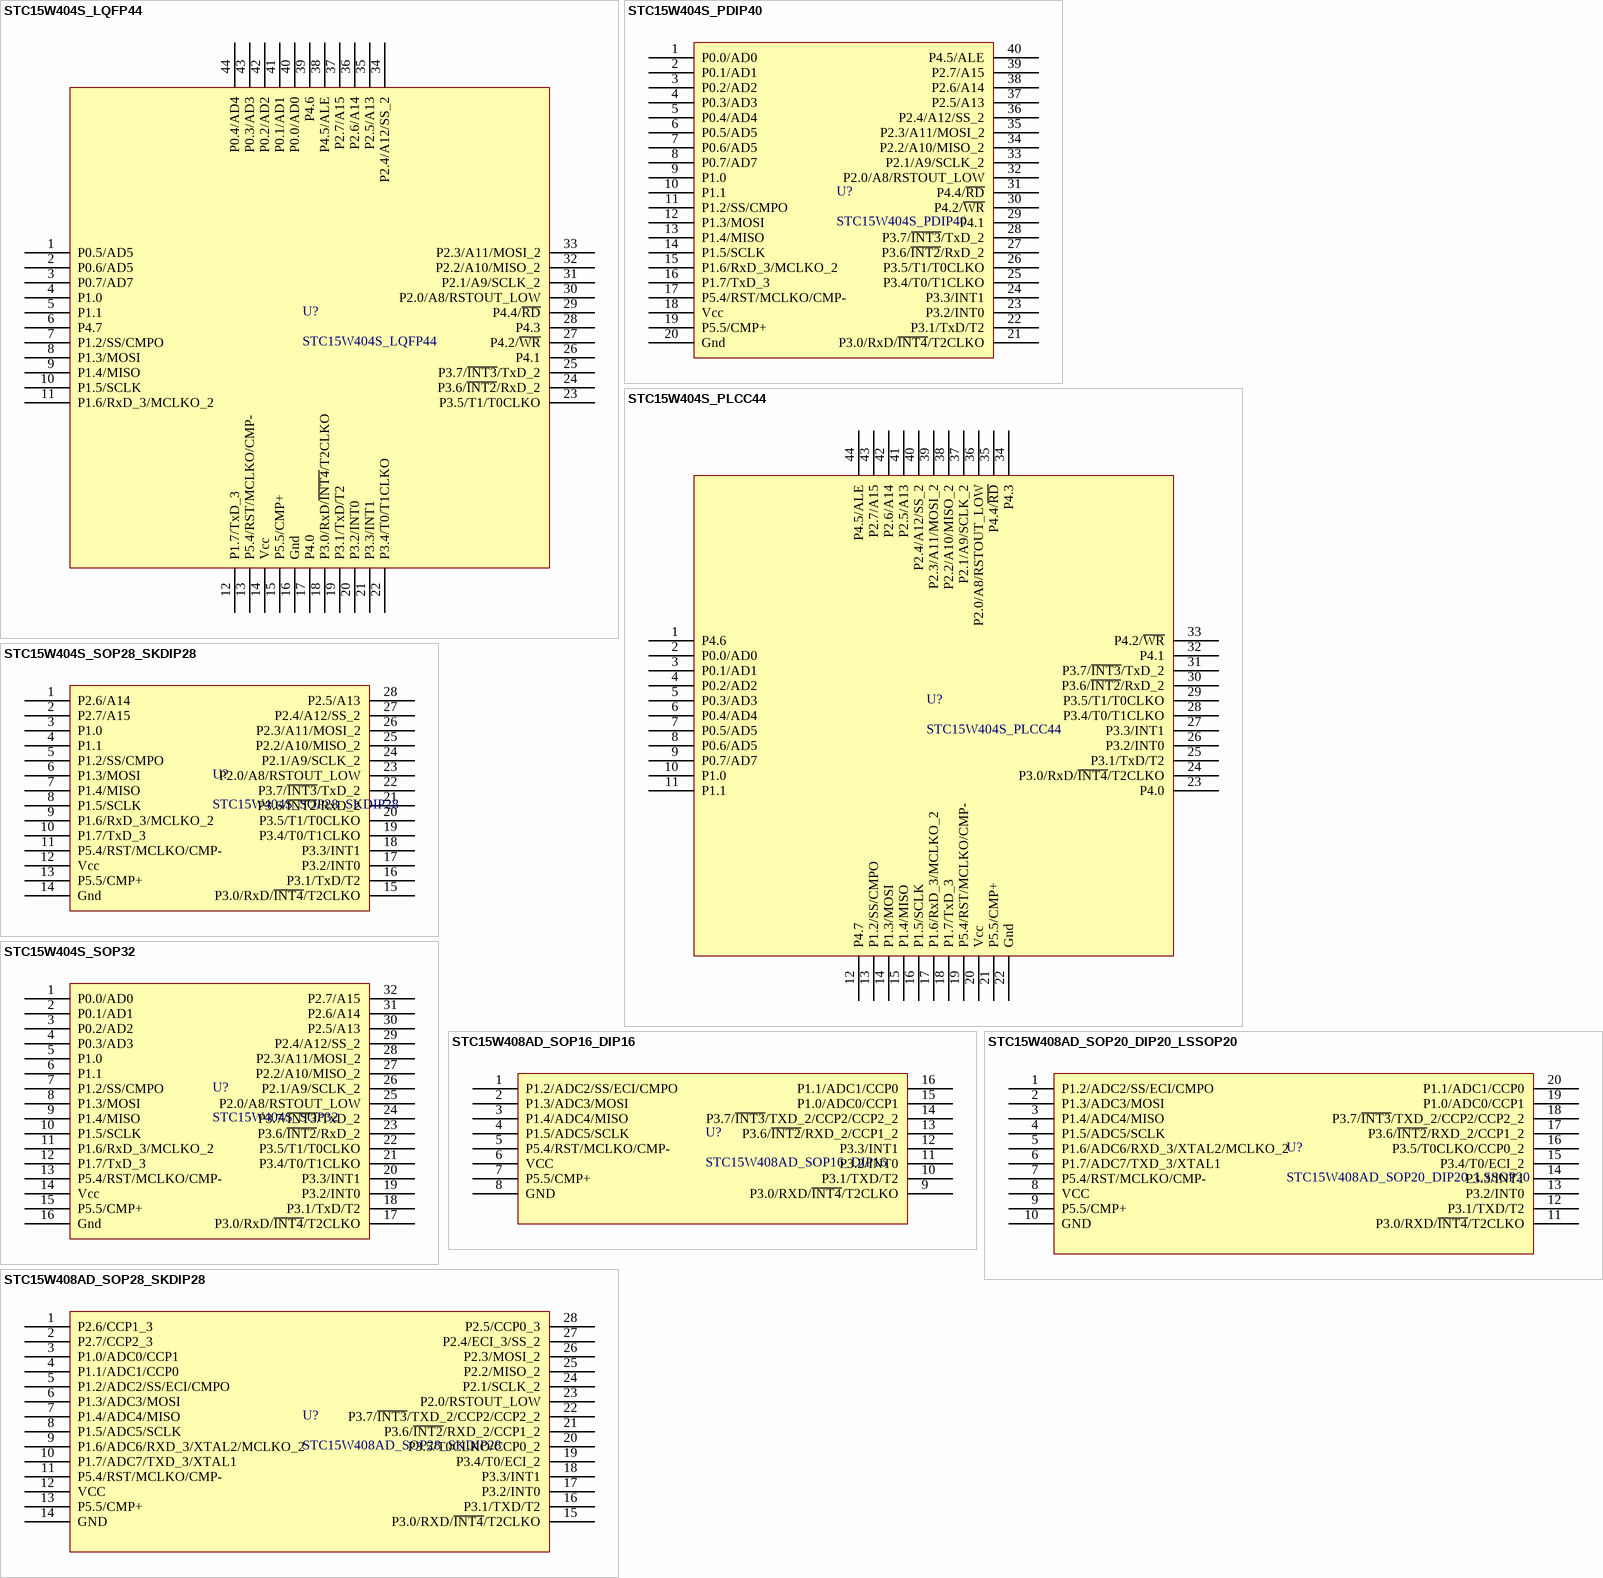
[diagram p9: symbols STC15W404S_LQFP44 to STC15W408AD_SOP28_SKDIP28]

## STC15W404S_LQFP44
designator U?
footprint LQFP44
pins: 1 P0.5/AD5, 2 P0.6/AD5, 3 P0.7/AD7, 4 P1.0, 5 P1.1, 6 P4.7, 7 P1.2/SS/CMPO, 8 P1.3/MOSI, 9 P1.4/MISO, 10 P1.5/SCLK, 11 P1.6/RxD_3/MCLKO_2, 12 P1.7/TxD_3, 13 P5.4/RST/MCLKO/CMP-, 14 Vcc, 15 P5.5/CMP+, 16 Gnd, 17 P4.0, 18 P3.0/RxD/~{INT4}/T2CLKO, 19 P3.1/TxD/T2, 20 P3.2/INT0, 21 P3.3/INT1, 22 P3.4/T0/T1CLKO, 23 P3.5/T1/T0CLKO, 24 P3.6/~{INT2}/RxD_2, 25 P3.7/~{INT3}/TxD_2, 26 P4.1, 27 P4.2/~{WR}, 28 P4.3, 29 P4.4/~{RD}, 30 P2.0/A8/RSTOUT_LOW, 31 P2.1/A9/SCLK_2, 32 P2.2/A10/MISO_2, 33 P2.3/A11/MOSI_2, 34 P2.4/A12/SS_2, 35 P2.5/A13, 36 P2.6/A14, 37 P2.7/A15, 38 P4.5/ALE, 39 P4.6, 40 P0.0/AD0, 41 P0.1/AD1, 42 P0.2/AD2, 43 P0.3/AD3, 44 P0.4/AD4

## STC15W404S_PDIP40
designator U?
footprint DIP40
pins: 1 P0.0/AD0, 2 P0.1/AD1, 3 P0.2/AD2, 4 P0.3/AD3, 5 P0.4/AD4, 6 P0.5/AD5, 7 P0.6/AD5, 8 P0.7/AD7, 9 P1.0, 10 P1.1, 11 P1.2/SS/CMPO, 12 P1.3/MOSI, 13 P1.4/MISO, 14 P1.5/SCLK, 15 P1.6/RxD_3/MCLKO_2, 16 P1.7/TxD_3, 17 P5.4/RST/MCLKO/CMP-, 18 Vcc, 19 P5.5/CMP+, 20 Gnd, 21 P3.0/RxD/~{INT4}/T2CLKO, 22 P3.1/TxD/T2, 23 P3.2/INT0, 24 P3.3/INT1, 25 P3.4/T0/T1CLKO, 26 P3.5/T1/T0CLKO, 27 P3.6/~{INT2}/RxD_2, 28 P3.7/~{INT3}/TxD_2, 29 P4.1, 30 P4.2/~{WR}, 31 P4.4/~{RD}, 32 P2.0/A8/RSTOUT_LOW, 33 P2.1/A9/SCLK_2, 34 P2.2/A10/MISO_2, 35 P2.3/A11/MOSI_2, 36 P2.4/A12/SS_2, 37 P2.5/A13, 38 P2.6/A14, 39 P2.7/A15, 40 P4.5/ALE

## STC15W404S_PLCC44
designator U?
footprint PLCC44
pins: 1 P4.6, 2 P0.0/AD0, 3 P0.1/AD1, 4 P0.2/AD2, 5 P0.3/AD3, 6 P0.4/AD4, 7 P0.5/AD5, 8 P0.6/AD5, 9 P0.7/AD7, 10 P1.0, 11 P1.1, 12 P4.7, 13 P1.2/SS/CMPO, 14 P1.3/MOSI, 15 P1.4/MISO, 16 P1.5/SCLK, 17 P1.6/RxD_3/MCLKO_2, 18 P1.7/TxD_3, 19 P5.4/RST/MCLKO/CMP-, 20 Vcc, 21 P5.5/CMP+, 22 Gnd, 23 P4.0, 24 P3.0/RxD/~{INT4}/T2CLKO, 25 P3.1/TxD/T2, 26 P3.2/INT0, 27 P3.3/INT1, 28 P3.4/T0/T1CLKO, 29 P3.5/T1/T0CLKO, 30 P3.6/~{INT2}/RxD_2, 31 P3.7/~{INT3}/TxD_2, 32 P4.1, 33 P4.2/~{WR}, 34 P4.3, 35 P4.4/~{RD}, 36 P2.0/A8/RSTOUT_LOW, 37 P2.1/A9/SCLK_2, 38 P2.2/A10/MISO_2, 39 P2.3/A11/MOSI_2, 40 P2.4/A12/SS_2, 41 P2.5/A13, 42 P2.6/A14, 43 P2.7/A15, 44 P4.5/ALE

## STC15W404S_SOP28_SKDIP28
designator U?
footprint SOP28
footprint SKDIP28
pins: 1 P2.6/A14, 2 P2.7/A15, 3 P1.0, 4 P1.1, 5 P1.2/SS/CMPO, 6 P1.3/MOSI, 7 P1.4/MISO, 8 P1.5/SCLK, 9 P1.6/RxD_3/MCLKO_2, 10 P1.7/TxD_3, 11 P5.4/RST/MCLKO/CMP-, 12 Vcc, 13 P5.5/CMP+, 14 Gnd, 15 P3.0/RxD/~{INT4}/T2CLKO, 16 P3.1/TxD/T2, 17 P3.2/INT0, 18 P3.3/INT1, 19 P3.4/T0/T1CLKO, 20 P3.5/T1/T0CLKO, 21 P3.6/~{INT2}/RxD_2, 22 P3.7/~{INT3}/TxD_2, 23 P2.0/A8/RSTOUT_LOW, 24 P2.1/A9/SCLK_2, 25 P2.2/A10/MISO_2, 26 P2.3/A11/MOSI_2, 27 P2.4/A12/SS_2, 28 P2.5/A13

## STC15W404S_SOP32
designator U?
footprint SOP32
pins: 1 P0.0/AD0, 2 P0.1/AD1, 3 P0.2/AD2, 4 P0.3/AD3, 5 P1.0, 6 P1.1, 7 P1.2/SS/CMPO, 8 P1.3/MOSI, 9 P1.4/MISO, 10 P1.5/SCLK, 11 P1.6/RxD_3/MCLKO_2, 12 P1.7/TxD_3, 13 P5.4/RST/MCLKO/CMP-, 14 Vcc, 15 P5.5/CMP+, 16 Gnd, 17 P3.0/RxD/~{INT4}/T2CLKO, 18 P3.1/TxD/T2, 19 P3.2/INT0, 20 P3.3/INT1, 21 P3.4/T0/T1CLKO, 22 P3.5/T1/T0CLKO, 23 P3.6/~{INT2}/RxD_2, 24 P3.7/~{INT3}/TxD_2, 25 P2.0/A8/RSTOUT_LOW, 26 P2.1/A9/SCLK_2, 27 P2.2/A10/MISO_2, 28 P2.3/A11/MOSI_2, 29 P2.4/A12/SS_2, 30 P2.5/A13, 31 P2.6/A14, 32 P2.7/A15

## STC15W408AD_SOP16_DIP16
designator U?
footprint DIP16
footprint SOP16
pins: 1 P1.2/ADC2/SS/ECI/CMPO, 2 P1.3/ADC3/MOSI, 3 P1.4/ADC4/MISO, 4 P1.5/ADC5/SCLK, 5 P5.4/RST/MCLKO/CMP-, 6 VCC, 7 P5.5/CMP+, 8 GND, 9 P3.0/RXD/~{INT4}/T2CLKO, 10 P3.1/TXD/T2, 11 P3.2/INT0, 12 P3.3/INT1, 13 P3.6/~{INT2}/RXD_2/CCP1_2, 14 P3.7/~{INT3}/TXD_2/CCP2/CCP2_2, 15 P1.0/ADC0/CCP1, 16 P1.1/ADC1/CCP0

## STC15W408AD_SOP20_DIP20_LSSOP20
designator U?
footprint DIP20
footprint LSSOP20
footprint SOP20
footprint TSSOP20
pins: 1 P1.2/ADC2/SS/ECI/CMPO, 2 P1.3/ADC3/MOSI, 3 P1.4/ADC4/MISO, 4 P1.5/ADC5/SCLK, 5 P1.6/ADC6/RXD_3/XTAL2/MCLKO_2, 6 P1.7/ADC7/TXD_3/XTAL1, 7 P5.4/RST/MCLKO/CMP-, 8 VCC, 9 P5.5/CMP+, 10 GND, 11 P3.0/RXD/~{INT4}/T2CLKO, 12 P3.1/TXD/T2, 13 P3.2/INT0, 14 P3.3/INT1, 15 P3.4/T0/ECI_2, 16 P3.5/T0CLKO/CCP0_2, 17 P3.6/~{INT2}/RXD_2/CCP1_2, 18 P3.7/~{INT3}/TXD_2/CCP2/CCP2_2, 19 P1.0/ADC0/CCP1, 20 P1.1/ADC1/CCP0

## STC15W408AD_SOP28_SKDIP28
designator U?
footprint SKDIP28
footprint SOP28
footprint TSSOP28
pins: 1 P2.6/CCP1_3, 2 P2.7/CCP2_3, 3 P1.0/ADC0/CCP1, 4 P1.1/ADC1/CCP0, 5 P1.2/ADC2/SS/ECI/CMPO, 6 P1.3/ADC3/MOSI, 7 P1.4/ADC4/MISO, 8 P1.5/ADC5/SCLK, 9 P1.6/ADC6/RXD_3/XTAL2/MCLKO_2, 10 P1.7/ADC7/TXD_3/XTAL1, 11 P5.4/RST/MCLKO/CMP-, 12 VCC, 13 P5.5/CMP+, 14 GND, 15 P3.0/RXD/~{INT4}/T2CLKO, 16 P3.1/TXD/T2, 17 P3.2/INT0, 18 P3.3/INT1, 19 P3.4/T0/ECI_2, 20 P3.5/T0CLKO/CCP0_2, 21 P3.6/~{INT2}/RXD_2/CCP1_2, 22 P3.7/~{INT3}/TXD_2/CCP2/CCP2_2, 23 P2.0/RSTOUT_LOW, 24 P2.1/SCLK_2, 25 P2.2/MISO_2, 26 P2.3/MOSI_2, 27 P2.4/ECI_3/SS_2, 28 P2.5/CCP0_3

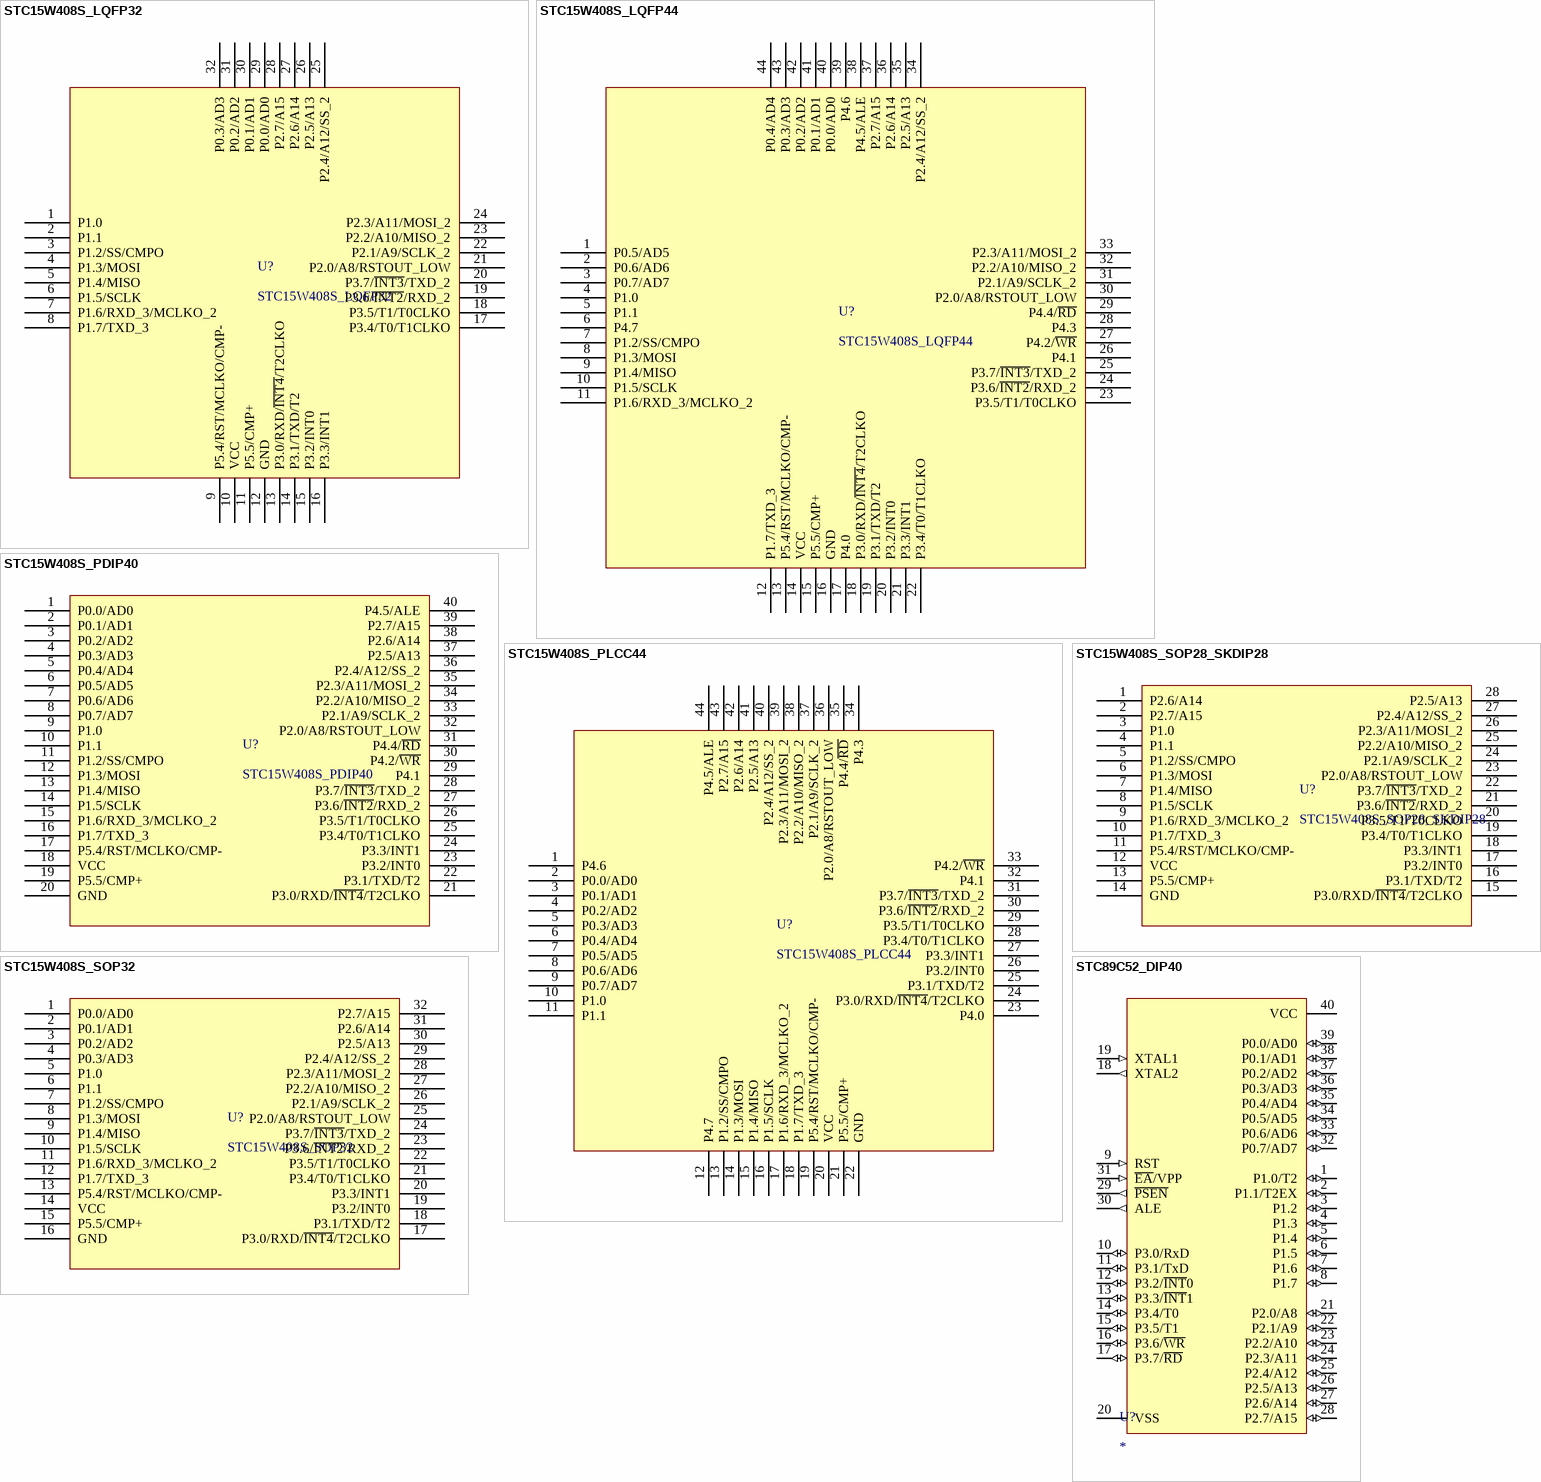
[diagram p10: symbols STC15W408S_LQFP32 to STC89C52_DIP40]

## STC15W408S_LQFP32
designator U?
footprint LQFP32
pins: 1 P1.0, 2 P1.1, 3 P1.2/SS/CMPO, 4 P1.3/MOSI, 5 P1.4/MISO, 6 P1.5/SCLK, 7 P1.6/RXD_3/MCLKO_2, 8 P1.7/TXD_3, 9 P5.4/RST/MCLKO/CMP-, 10 VCC, 11 P5.5/CMP+, 12 GND, 13 P3.0/RXD/~{INT4}/T2CLKO, 14 P3.1/TXD/T2, 15 P3.2/INT0, 16 P3.3/INT1, 17 P3.4/T0/T1CLKO, 18 P3.5/T1/T0CLKO, 19 P3.6/~{INT2}/RXD_2, 20 P3.7/~{INT3}/TXD_2, 21 P2.0/A8/RSTOUT_LOW, 22 P2.1/A9/SCLK_2, 23 P2.2/A10/MISO_2, 24 P2.3/A11/MOSI_2, 25 P2.4/A12/SS_2, 26 P2.5/A13, 27 P2.6/A14, 28 P2.7/A15, 29 P0.0/AD0, 30 P0.1/AD1, 31 P0.2/AD2, 32 P0.3/AD3

## STC15W408S_LQFP44
designator U?
footprint LQFP44
footprint PQFP44
pins: 1 P0.5/AD5, 2 P0.6/AD6, 3 P0.7/AD7, 4 P1.0, 5 P1.1, 6 P4.7, 7 P1.2/SS/CMPO, 8 P1.3/MOSI, 9 P1.4/MISO, 10 P1.5/SCLK, 11 P1.6/RXD_3/MCLKO_2, 12 P1.7/TXD_3, 13 P5.4/RST/MCLKO/CMP-, 14 VCC, 15 P5.5/CMP+, 16 GND, 17 P4.0, 18 P3.0/RXD/~{INT4}/T2CLKO, 19 P3.1/TXD/T2, 20 P3.2/INT0, 21 P3.3/INT1, 22 P3.4/T0/T1CLKO, 23 P3.5/T1/T0CLKO, 24 P3.6/~{INT2}/RXD_2, 25 P3.7/~{INT3}/TXD_2, 26 P4.1, 27 P4.2/~{WR}, 28 P4.3, 29 P4.4/~{RD}, 30 P2.0/A8/RSTOUT_LOW, 31 P2.1/A9/SCLK_2, 32 P2.2/A10/MISO_2, 33 P2.3/A11/MOSI_2, 34 P2.4/A12/SS_2, 35 P2.5/A13, 36 P2.6/A14, 37 P2.7/A15, 38 P4.5/ALE, 39 P4.6, 40 P0.0/AD0, 41 P0.1/AD1, 42 P0.2/AD2, 43 P0.3/AD3, 44 P0.4/AD4

## STC15W408S_PDIP40
designator U?
footprint DIP40
pins: 1 P0.0/AD0, 2 P0.1/AD1, 3 P0.2/AD2, 4 P0.3/AD3, 5 P0.4/AD4, 6 P0.5/AD5, 7 P0.6/AD6, 8 P0.7/AD7, 9 P1.0, 10 P1.1, 11 P1.2/SS/CMPO, 12 P1.3/MOSI, 13 P1.4/MISO, 14 P1.5/SCLK, 15 P1.6/RXD_3/MCLKO_2, 16 P1.7/TXD_3, 17 P5.4/RST/MCLKO/CMP-, 18 VCC, 19 P5.5/CMP+, 20 GND, 21 P3.0/RXD/~{INT4}/T2CLKO, 22 P3.1/TXD/T2, 23 P3.2/INT0, 24 P3.3/INT1, 25 P3.4/T0/T1CLKO, 26 P3.5/T1/T0CLKO, 27 P3.6/~{INT2}/RXD_2, 28 P3.7/~{INT3}/TXD_2, 29 P4.1, 30 P4.2/~{WR}, 31 P4.4/~{RD}, 32 P2.0/A8/RSTOUT_LOW, 33 P2.1/A9/SCLK_2, 34 P2.2/A10/MISO_2, 35 P2.3/A11/MOSI_2, 36 P2.4/A12/SS_2, 37 P2.5/A13, 38 P2.6/A14, 39 P2.7/A15, 40 P4.5/ALE

## STC15W408S_PLCC44
designator U?
footprint PLCC44
pins: 1 P4.6, 2 P0.0/AD0, 3 P0.1/AD1, 4 P0.2/AD2, 5 P0.3/AD3, 6 P0.4/AD4, 7 P0.5/AD5, 8 P0.6/AD6, 9 P0.7/AD7, 10 P1.0, 11 P1.1, 12 P4.7, 13 P1.2/SS/CMPO, 14 P1.3/MOSI, 15 P1.4/MISO, 16 P1.5/SCLK, 17 P1.6/RXD_3/MCLKO_2, 18 P1.7/TXD_3, 19 P5.4/RST/MCLKO/CMP-, 20 VCC, 21 P5.5/CMP+, 22 GND, 23 P4.0, 24 P3.0/RXD/~{INT4}/T2CLKO, 25 P3.1/TXD/T2, 26 P3.2/INT0, 27 P3.3/INT1, 28 P3.4/T0/T1CLKO, 29 P3.5/T1/T0CLKO, 30 P3.6/~{INT2}/RXD_2, 31 P3.7/~{INT3}/TXD_2, 32 P4.1, 33 P4.2/~{WR}, 34 P4.3, 35 P4.4/~{RD}, 36 P2.0/A8/RSTOUT_LOW, 37 P2.1/A9/SCLK_2, 38 P2.2/A10/MISO_2, 39 P2.3/A11/MOSI_2, 40 P2.4/A12/SS_2, 41 P2.5/A13, 42 P2.6/A14, 43 P2.7/A15, 44 P4.5/ALE

## STC15W408S_SOP28_SKDIP28
designator U?
footprint SKDIP28
footprint SOP28
footprint TSSOP28
pins: 1 P2.6/A14, 2 P2.7/A15, 3 P1.0, 4 P1.1, 5 P1.2/SS/CMPO, 6 P1.3/MOSI, 7 P1.4/MISO, 8 P1.5/SCLK, 9 P1.6/RXD_3/MCLKO_2, 10 P1.7/TXD_3, 11 P5.4/RST/MCLKO/CMP-, 12 VCC, 13 P5.5/CMP+, 14 GND, 15 P3.0/RXD/~{INT4}/T2CLKO, 16 P3.1/TXD/T2, 17 P3.2/INT0, 18 P3.3/INT1, 19 P3.4/T0/T1CLKO, 20 P3.5/T1/T0CLKO, 21 P3.6/~{INT2}/RXD_2, 22 P3.7/~{INT3}/TXD_2, 23 P2.0/A8/RSTOUT_LOW, 24 P2.1/A9/SCLK_2, 25 P2.2/A10/MISO_2, 26 P2.3/A11/MOSI_2, 27 P2.4/A12/SS_2, 28 P2.5/A13

## STC15W408S_SOP32
designator U?
footprint SOP32
pins: 1 P0.0/AD0, 2 P0.1/AD1, 3 P0.2/AD2, 4 P0.3/AD3, 5 P1.0, 6 P1.1, 7 P1.2/SS/CMPO, 8 P1.3/MOSI, 9 P1.4/MISO, 10 P1.5/SCLK, 11 P1.6/RXD_3/MCLKO_2, 12 P1.7/TXD_3, 13 P5.4/RST/MCLKO/CMP-, 14 VCC, 15 P5.5/CMP+, 16 GND, 17 P3.0/RXD/~{INT4}/T2CLKO, 18 P3.1/TXD/T2, 19 P3.2/INT0, 20 P3.3/INT1, 21 P3.4/T0/T1CLKO, 22 P3.5/T1/T0CLKO, 23 P3.6/~{INT2}/RXD_2, 24 P3.7/~{INT3}/TXD_2, 25 P2.0/A8/RSTOUT_LOW, 26 P2.1/A9/SCLK_2, 27 P2.2/A10/MISO_2, 28 P2.3/A11/MOSI_2, 29 P2.4/A12/SS_2, 30 P2.5/A13, 31 P2.6/A14, 32 P2.7/A15

## STC89C52_DIP40
designator U?
footprint DIP40
pins: 1 P1.0/T2 (io), 2 P1.1/T2EX (io), 3 P1.2 (io), 4 P1.3 (io), 5 P1.4 (io), 6 P1.5 (io), 7 P1.6 (io), 8 P1.7 (io), 9 RST (in), 10 P3.0/RxD (io), 11 P3.1/TxD (io), 12 P3.2/~{INT}0 (io), 13 P3.3/~{INT}1 (io), 14 P3.4/T0 (io), 15 P3.5/T1 (io), 16 P3.6/~{WR} (io), 17 P3.7/~{RD} (io), 18 XTAL2 (out), 19 XTAL1 (in), 20 VSS (power), 21 P2.0/A8 (io), 22 P2.1/A9 (io), 23 P2.2/A10 (io), 24 P2.3/A11 (io), 25 P2.4/A12 (io), 26 P2.5/A13 (io), 27 P2.6/A14 (io), 28 P2.7/A15 (io), 29 ~{PSEN} (out), 30 ALE (out), 31 ~{EA}/VPP (in), 32 P0.7/AD7 (io), 33 P0.6/AD6 (io), 34 P0.5/AD5 (io), 35 P0.4/AD4 (io), 36 P0.3/AD3 (io), 37 P0.2/AD2 (io), 38 P0.1/AD1 (io), 39 P0.0/AD0 (io), 40 VCC (power)

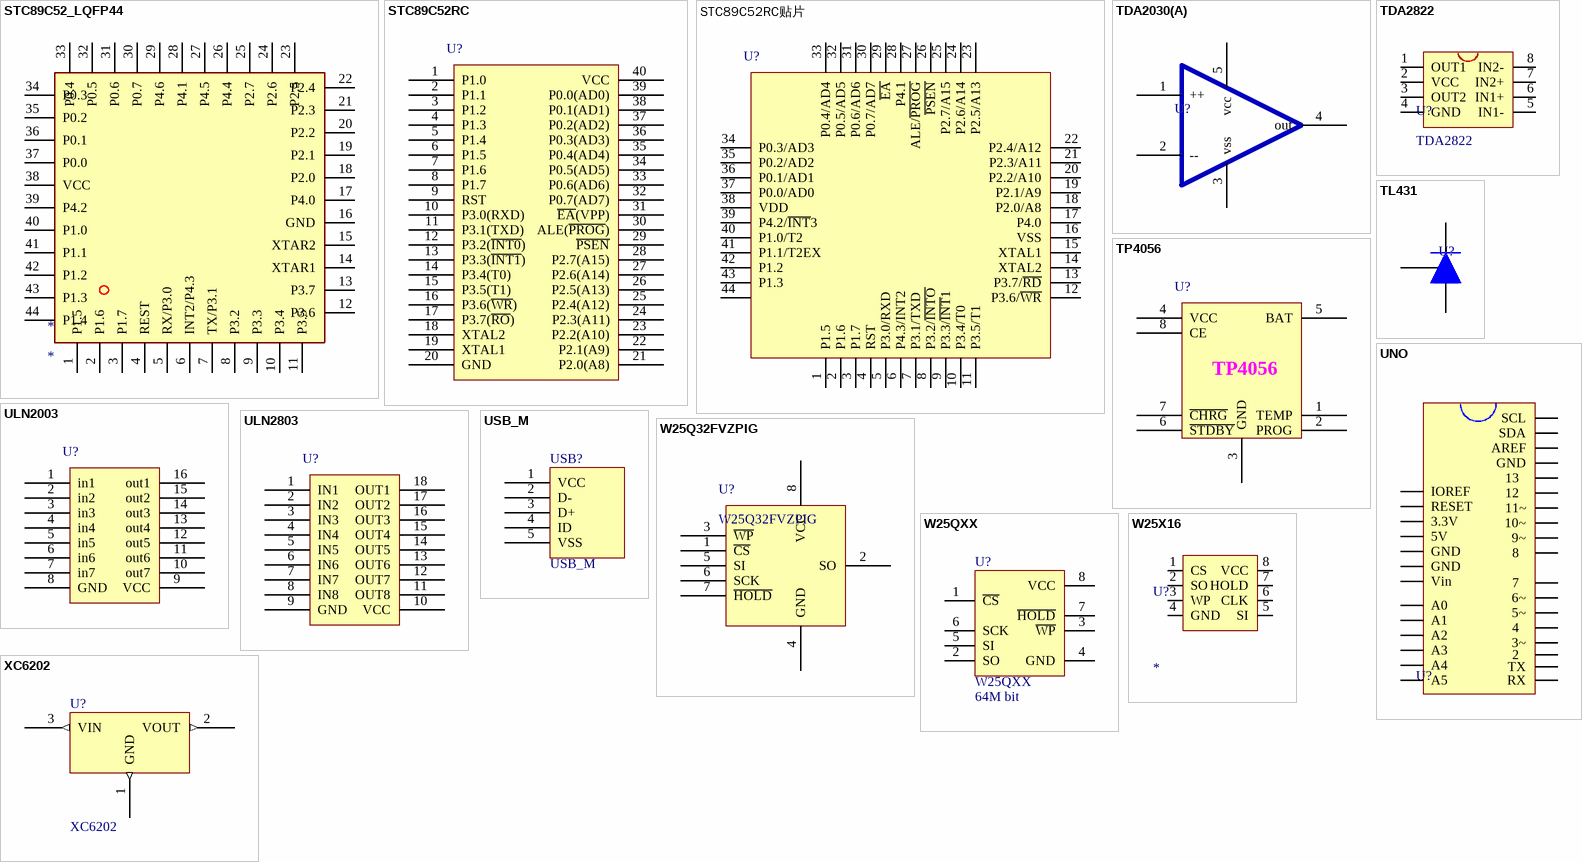
[diagram p11: symbols STC89C52_LQFP44 to XC6202]

## STC89C52_LQFP44
designator *
footprint PQFP44_L (QFP, 44-Leads, Body 14x14mm, Pitch 1mm, IPC High Density)
pins: 1 P1.5, 2 P1.6, 3 P1.7, 4 REST, 5 RX/P3.0, 6 INT2/P4.3, 7 TX/P3.1, 8 P3.2, 9 P3.3, 10 P3.4, 11 P3.5, 12 P3.6, 13 P3.7, 14 XTAR1, 15 XTAR2, 16 GND, 17 P4.0, 18 P2.0, 19 P2.1, 20 P2.2, 21 P2.3, 22 P2.4, 23 P2.5, 24 P2.6, 25 P2.7, 26 P4.4, 27 P4.5, 28 P4.1, 29 P4.6, 30 P0.7, 31 P0.6, 32 P0.5, 33 P0.4, 34 P0.3, 35 P0.2, 36 P0.1, 37 P0.0, 38 VCC, 39 P4.2, 40 P1.0, 41 P1.1, 42 P1.2, 43 P1.3, 44 P1.4

## STC89C52RC
designator U?  (value not drawn)
footprint DIP-40_600
pins: 1 P1.0, 2 P1.1, 3 P1.2, 4 P1.3, 5 P1.4, 6 P1.5, 7 P1.6, 8 P1.7, 9 RST, 10 P3.0(RXD), 11 P3.1(TXD), 12 P3.2(~{INT0}), 13 P3.3(~{INT1}), 14 P3.4(T0), 15 P3.5(T1), 16 P3.6(~{WR}), 17 P3.7(~{RO}), 18 XTAL2, 19 XTAL1, 20 GND, 21 P2.0(A8), 22 P2.1(A9), 23 P2.2(A10), 24 P2.3(A11), 25 P2.4(A12), 26 P2.5(A13), 27 P2.6(A14), 28 P2.7(A15), 29 ~{PSEN}, 30 ALE(~{PROG}), 31 ~{EA}(VPP), 32 P0.7(AD7), 33 P0.6(AD6), 34 P0.5(AD5), 35 P0.4(AD4), 36 P0.3(AD3), 37 P0.2(AD2), 38 P0.1(AD1), 39 P0.0(AD0), 40 VCC

## STC89C52RC贴片
designator U?
footprint LQFP-48
pins: 1 P1.5, 2 P1.6, 3 P1.7, 4 RST, 5 P3.0/RXD, 6 P4.3/INT2, 7 P3.1/TXD, 8 P3.2/~{INTO}, 9 P3.3/~{INT}1, 10 P3.4/T0, 11 P3.5/T1, 12 P3.6/~{WR}, 13 P3.7/~{RD}, 14 XTAL2, 15 XTAL1, 16 VSS, 17 P4.0, 18 P2.0/A8, 19 P2.1/A9, 20 P2.2/A10, 21 P2.3/A11, 22 P2.4/A12, 23 P2.5/A13, 24 P2.6/A14, 25 P2.7/A15, 26 ~{PSEN}, 27 ALE/~{PROG}, 28 P4.1, 29 ~{EA}, 30 P0.7/AD7, 31 P0.6/AD6, 32 P0.5/AD5, 33 P0.4/AD4, 34 P0.3/AD3, 35 P0.2/AD2, 36 P0.1/AD1, 37 P0.0/AD0, 38 VDD, 39 P4.2/~{INT}3, 40 P1.0/T2, 41 P1.1/T2EX, 42 P1.2, 43 P1.3, 44 P1.4